# Altium schematic symbol library 74xx_IEEE.SchLib: 185 symbols
Pins are listed as number, name and electrical type; pins without a type are passive.

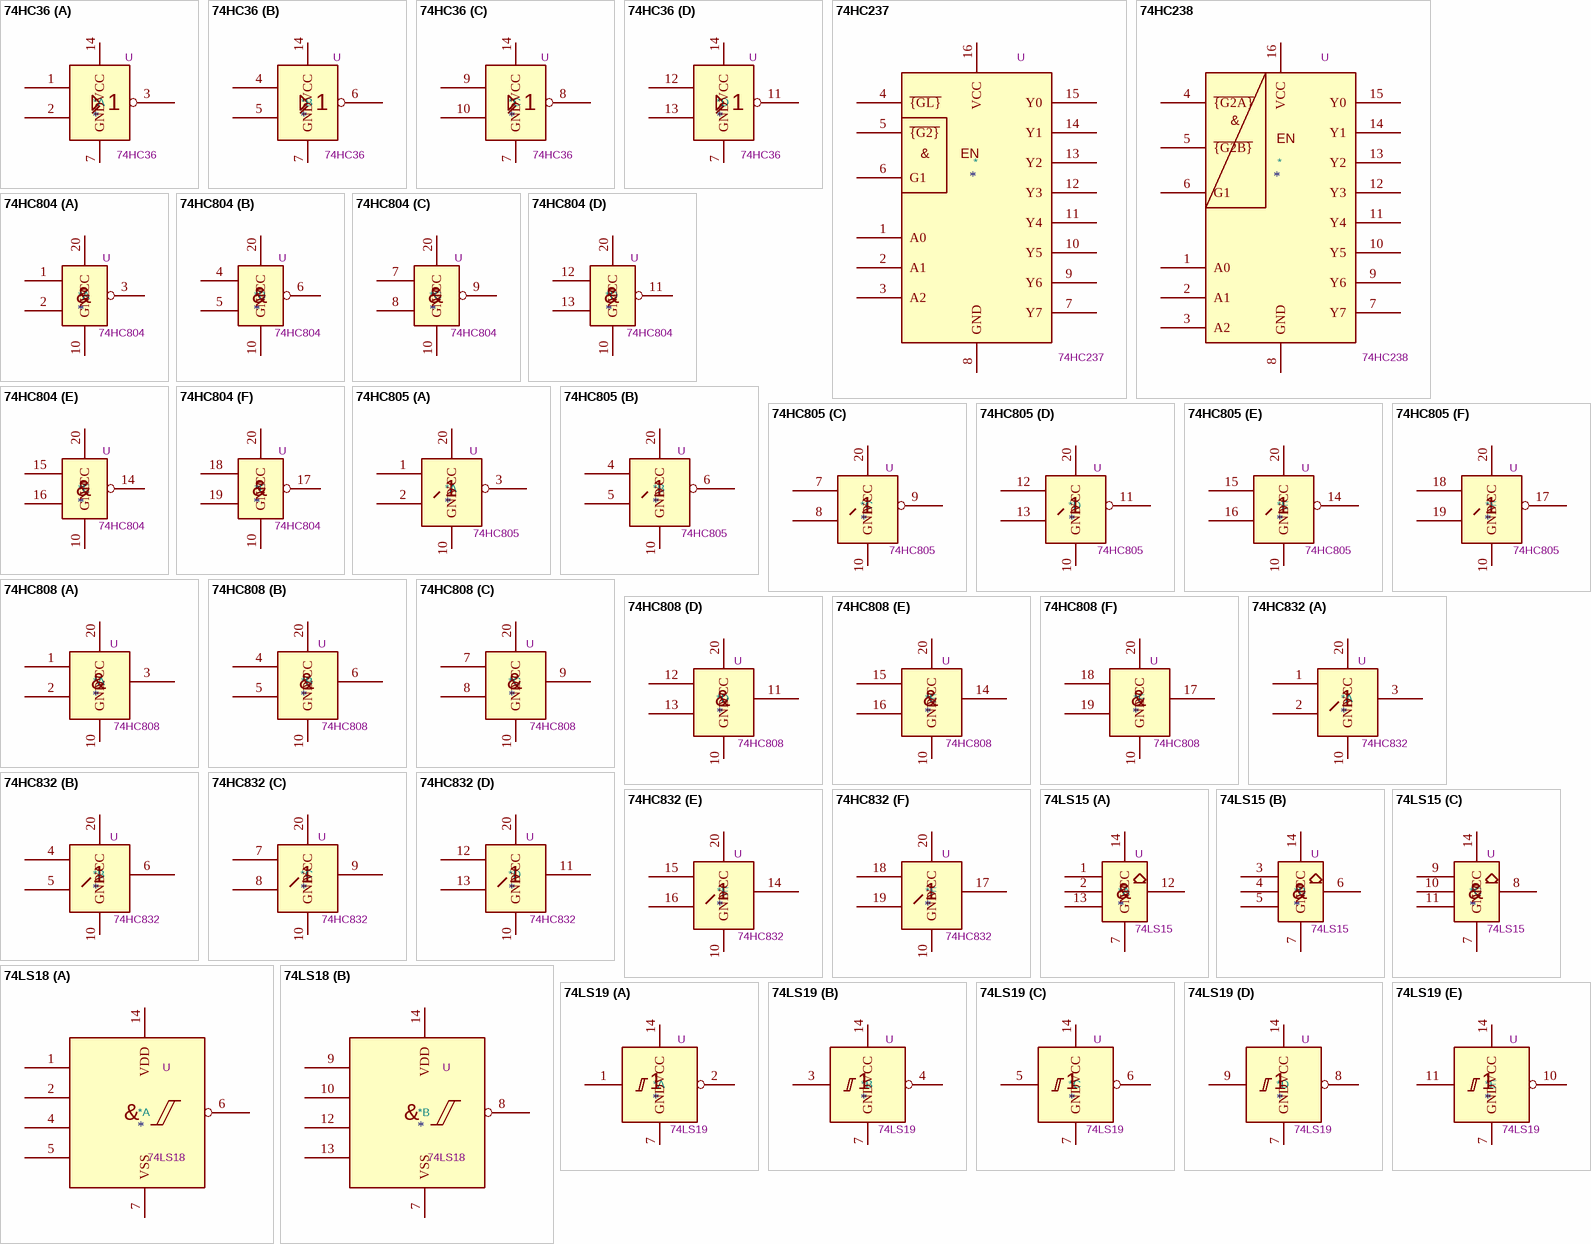
[diagram p0: symbols 74HC36 to 74LS19]

## 74HC36
designator *  value 74HC36  Reference: U
part A pins: 1, 2, 3, 7 GND, 14 VCC
part B pins: 4, 5, 6, 7 GND, 14 VCC
part C pins: 7 GND, 8, 9, 10, 14 VCC
part D pins: 7 GND, 11, 12, 13, 14 VCC

## 74HC237
designator *  value 74HC237  Reference: U
pins: 1 A0, 2 A1, 3 A2, 4 ~{{GL}}, 5 ~{{G2}}, 6 G1, 7 Y7, 8 GND, 9 Y6, 10 Y5, 11 Y4, 12 Y3, 13 Y2, 14 Y1, 15 Y0, 16 VCC
text: &; EN

## 74HC238
designator *  value 74HC238  Reference: U
pins: 1 A0, 2 A1, 3 A2, 4 ~{{G2A}}, 5 ~{{G2B}}, 6 G1, 7 Y7, 8 GND, 9 Y6, 10 Y5, 11 Y4, 12 Y3, 13 Y2, 14 Y1, 15 Y0, 16 VCC
text: &; EN

## 74HC804
designator *  value 74HC804  Reference: U
part A pins: 1, 2, 3, 10 GND, 20 VCC
part B pins: 4, 5, 6, 10 GND, 20 VCC
part C pins: 7, 8, 9, 10 GND, 20 VCC
part D pins: 10 GND, 11, 12, 13, 20 VCC
part E pins: 10 GND, 14, 15, 16, 20 VCC
part F pins: 10 GND, 17, 18, 19, 20 VCC
part A text: &
part B text: &
part C text: &
part D text: &
part E text: &
part F text: &

## 74HC805
designator *  value 74HC805  Reference: U
part A pins: 1, 2, 3, 10 GND, 20 VCC
part B pins: 4, 5, 6, 10 GND, 20 VCC
part C pins: 7, 8, 9, 10 GND, 20 VCC
part D pins: 10 GND, 11, 12, 13, 20 VCC
part E pins: 10 GND, 14, 15, 16, 20 VCC
part F pins: 10 GND, 17, 18, 19, 20 VCC

## 74HC808
designator *  value 74HC808  Reference: U
part A pins: 1, 2, 3, 10 GND, 20 VCC
part B pins: 4, 5, 6, 10 GND, 20 VCC
part C pins: 7, 8, 9, 10 GND, 20 VCC
part D pins: 10 GND, 11, 12, 13, 20 VCC
part E pins: 10 GND, 14, 15, 16, 20 VCC
part F pins: 10 GND, 17, 18, 19, 20 VCC
part A text: &
part B text: &
part C text: &
part D text: &
part E text: &
part F text: &

## 74HC832
designator *  value 74HC832  Reference: U
part A pins: 1, 2, 3, 10 GND, 20 VCC
part B pins: 4, 5, 6, 10 GND, 20 VCC
part C pins: 7, 8, 9, 10 GND, 20 VCC
part D pins: 10 GND, 11, 12, 13, 20 VCC
part E pins: 10 GND, 14, 15, 16, 20 VCC
part F pins: 10 GND, 17, 18, 19, 20 VCC

## 74LS15
designator *  value 74LS15  Reference: U
part A pins: 1, 2, 7 GND, 12, 13, 14 VCC
part B pins: 3, 4, 5, 6, 7 GND, 14 VCC
part C pins: 7 GND, 8, 9, 10, 11, 14 VCC
part A text: &
part B text: &
part C text: &

## 74LS18
designator *  value 74LS18  Reference: U
part A pins: 1, 2, 4, 5, 6, 7 VSS, 14 VDD
part B pins: 7 VSS, 8, 9, 10, 12, 13, 14 VDD
part A text: &
part B text: &

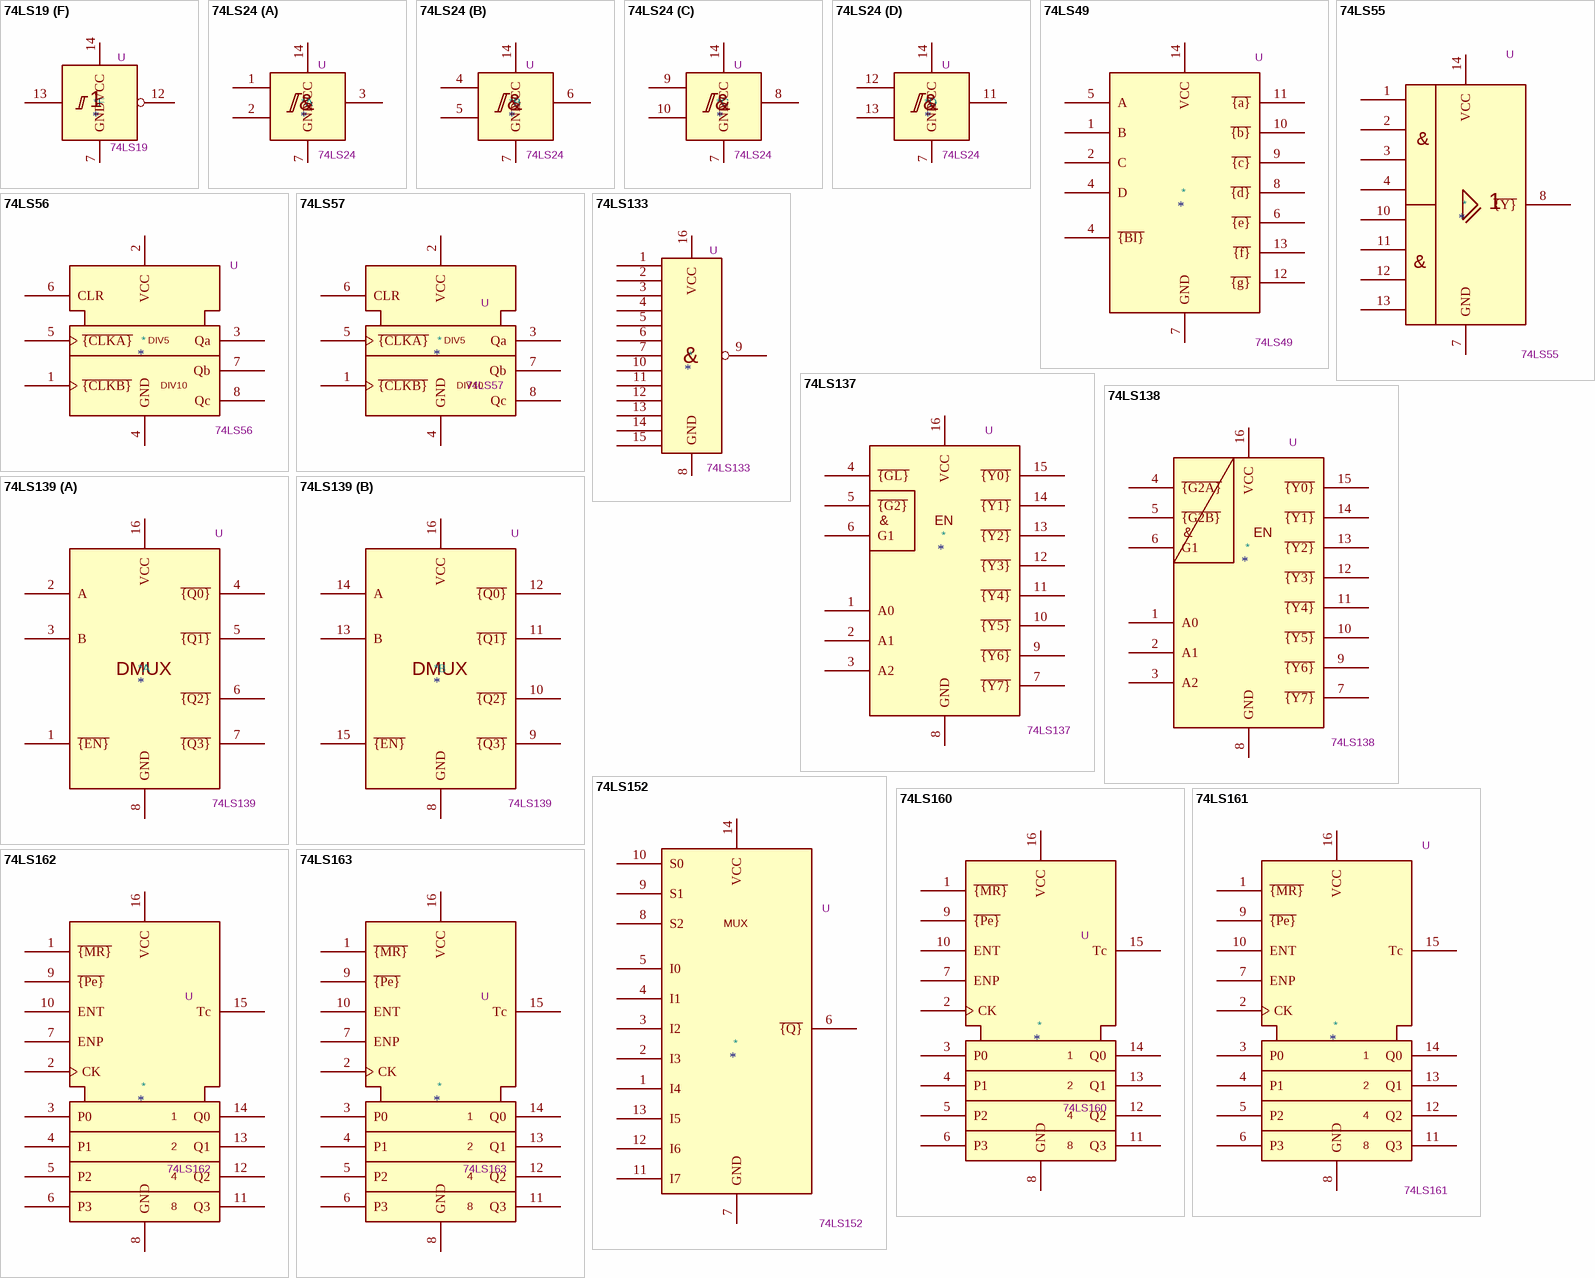
[diagram p1: symbols 74LS19 to 74LS163]

## 74LS19
designator *  value 74LS19  Reference: U
part A pins: 1, 2, 7 GND, 14 VCC
part B pins: 3, 4, 7 GND, 14 VCC
part C pins: 5, 6, 7 GND, 14 VCC
part D pins: 7 GND, 8, 9, 14 VCC
part E pins: 7 GND, 10, 11, 14 VCC
part F pins: 7 GND, 12, 13, 14 VCC

## 74LS24
designator *  value 74LS24  Reference: U
part A pins: 1, 2, 3, 7 GND, 14 VCC
part B pins: 4, 5, 6, 7 GND, 14 VCC
part C pins: 7 GND, 8, 9, 10, 14 VCC
part D pins: 7 GND, 11, 12, 13, 14 VCC
part A text: &
part B text: &
part C text: &
part D text: &

## 74LS49
designator *  value 74LS49  Reference: U
pins: 1 B, 2 C, 4 ~{{BI}}, 4 D, 5 A, 6 ~{{e}}, 7 GND, 8 ~{{d}}, 9 ~{{c}}, 10 ~{{b}}, 11 ~{{a}}, 12 ~{{g}}, 13 ~{{f}}, 14 VCC

## 74LS55
designator *  value 74LS55  Reference: U
pins: 1, 2, 3, 4, 7 GND, 8 ~{{Y}}, 10, 11, 12, 13, 14 VCC
text: &

## 74LS56
designator *  value 74LS56  Reference: U
pins: 1 ~{{CLKB}}, 2 VCC, 3 Qa, 4 GND, 5 ~{{CLKA}}, 6 CLR, 7 Qb, 8 Qc
text: DIV5; DIV10

## 74LS57
designator *  value 74LS57  Reference: U
pins: 1 ~{{CLKB}}, 2 VCC, 3 Qa, 4 GND, 5 ~{{CLKA}}, 6 CLR, 7 Qb, 8 Qc
text: DIV5; DIV10

## 74LS133
designator *  value 74LS133  Reference: U
pins: 1, 2, 3, 4, 5, 6, 7, 8 GND, 9, 10, 11, 12, 13, 14, 15, 16 VCC
text: &

## 74LS137
designator *  value 74LS137  Reference: U
pins: 1 A0, 2 A1, 3 A2, 4 ~{{GL}}, 5 ~{{G2}}, 6 G1, 7 ~{{Y7}}, 8 GND, 9 ~{{Y6}}, 10 ~{{Y5}}, 11 ~{{Y4}}, 12 ~{{Y3}}, 13 ~{{Y2}}, 14 ~{{Y1}}, 15 ~{{Y0}}, 16 VCC
text: &; EN

## 74LS138
designator *  value 74LS138  Reference: U
pins: 1 A0, 2 A1, 3 A2, 4 ~{{G2A}}, 5 ~{{G2B}}, 6 G1, 7 ~{{Y7}}, 8 GND, 9 ~{{Y6}}, 10 ~{{Y5}}, 11 ~{{Y4}}, 12 ~{{Y3}}, 13 ~{{Y2}}, 14 ~{{Y1}}, 15 ~{{Y0}}, 16 VCC
text: &; EN

## 74LS139
designator *  value 74LS139  Reference: U
ki_keywords: TTL DECOD4; ki_description: Dual Decoder 1 of 4, Active low outputs; Datasheet: http://www.ti.com/lit/ds/symlink/sn74ls139a.pdf
part A pins: 1 ~{{EN}}, 2 A, 3 B, 4 ~{{Q0}}, 5 ~{{Q1}}, 6 ~{{Q2}}, 7 ~{{Q3}}, 8 GND, 16 VCC
part B pins: 8 GND, 9 ~{{Q3}}, 10 ~{{Q2}}, 11 ~{{Q1}}, 12 ~{{Q0}}, 13 B, 14 A, 15 ~{{EN}}, 16 VCC
part A text: DMUX
part B text: DMUX

## 74LS152
designator *  value 74LS152  Reference: U
pins: 1 I4, 2 I3, 3 I2, 4 I1, 5 I0, 6 ~{{Q}}, 7 GND, 8 S2, 9 S1, 10 S0, 11 I7, 12 I6, 13 I5, 14 VCC
text: MUX

## 74LS160
designator *  value 74LS160  Reference: U
pins: 1 ~{{MR}}, 2 CK, 3 P0, 4 P1, 5 P2, 6 P3, 7 ENP, 8 GND, 9 ~{{Pe}}, 10 ENT, 11 Q3, 12 Q2, 13 Q1, 14 Q0, 15 Tc, 16 VCC

## 74LS161
designator *  value 74LS161  Reference: U
pins: 1 ~{{MR}}, 2 CK, 3 P0, 4 P1, 5 P2, 6 P3, 7 ENP, 8 GND, 9 ~{{Pe}}, 10 ENT, 11 Q3, 12 Q2, 13 Q1, 14 Q0, 15 Tc, 16 VCC

## 74LS162
designator *  value 74LS162  Reference: U
pins: 1 ~{{MR}}, 2 CK, 3 P0, 4 P1, 5 P2, 6 P3, 7 ENP, 8 GND, 9 ~{{Pe}}, 10 ENT, 11 Q3, 12 Q2, 13 Q1, 14 Q0, 15 Tc, 16 VCC

## 74LS163
designator *  value 74LS163  Reference: U
pins: 1 ~{{MR}}, 2 CK, 3 P0, 4 P1, 5 P2, 6 P3, 7 ENP, 8 GND, 9 ~{{Pe}}, 10 ENT, 11 Q3, 12 Q2, 13 Q1, 14 Q0, 15 Tc, 16 VCC

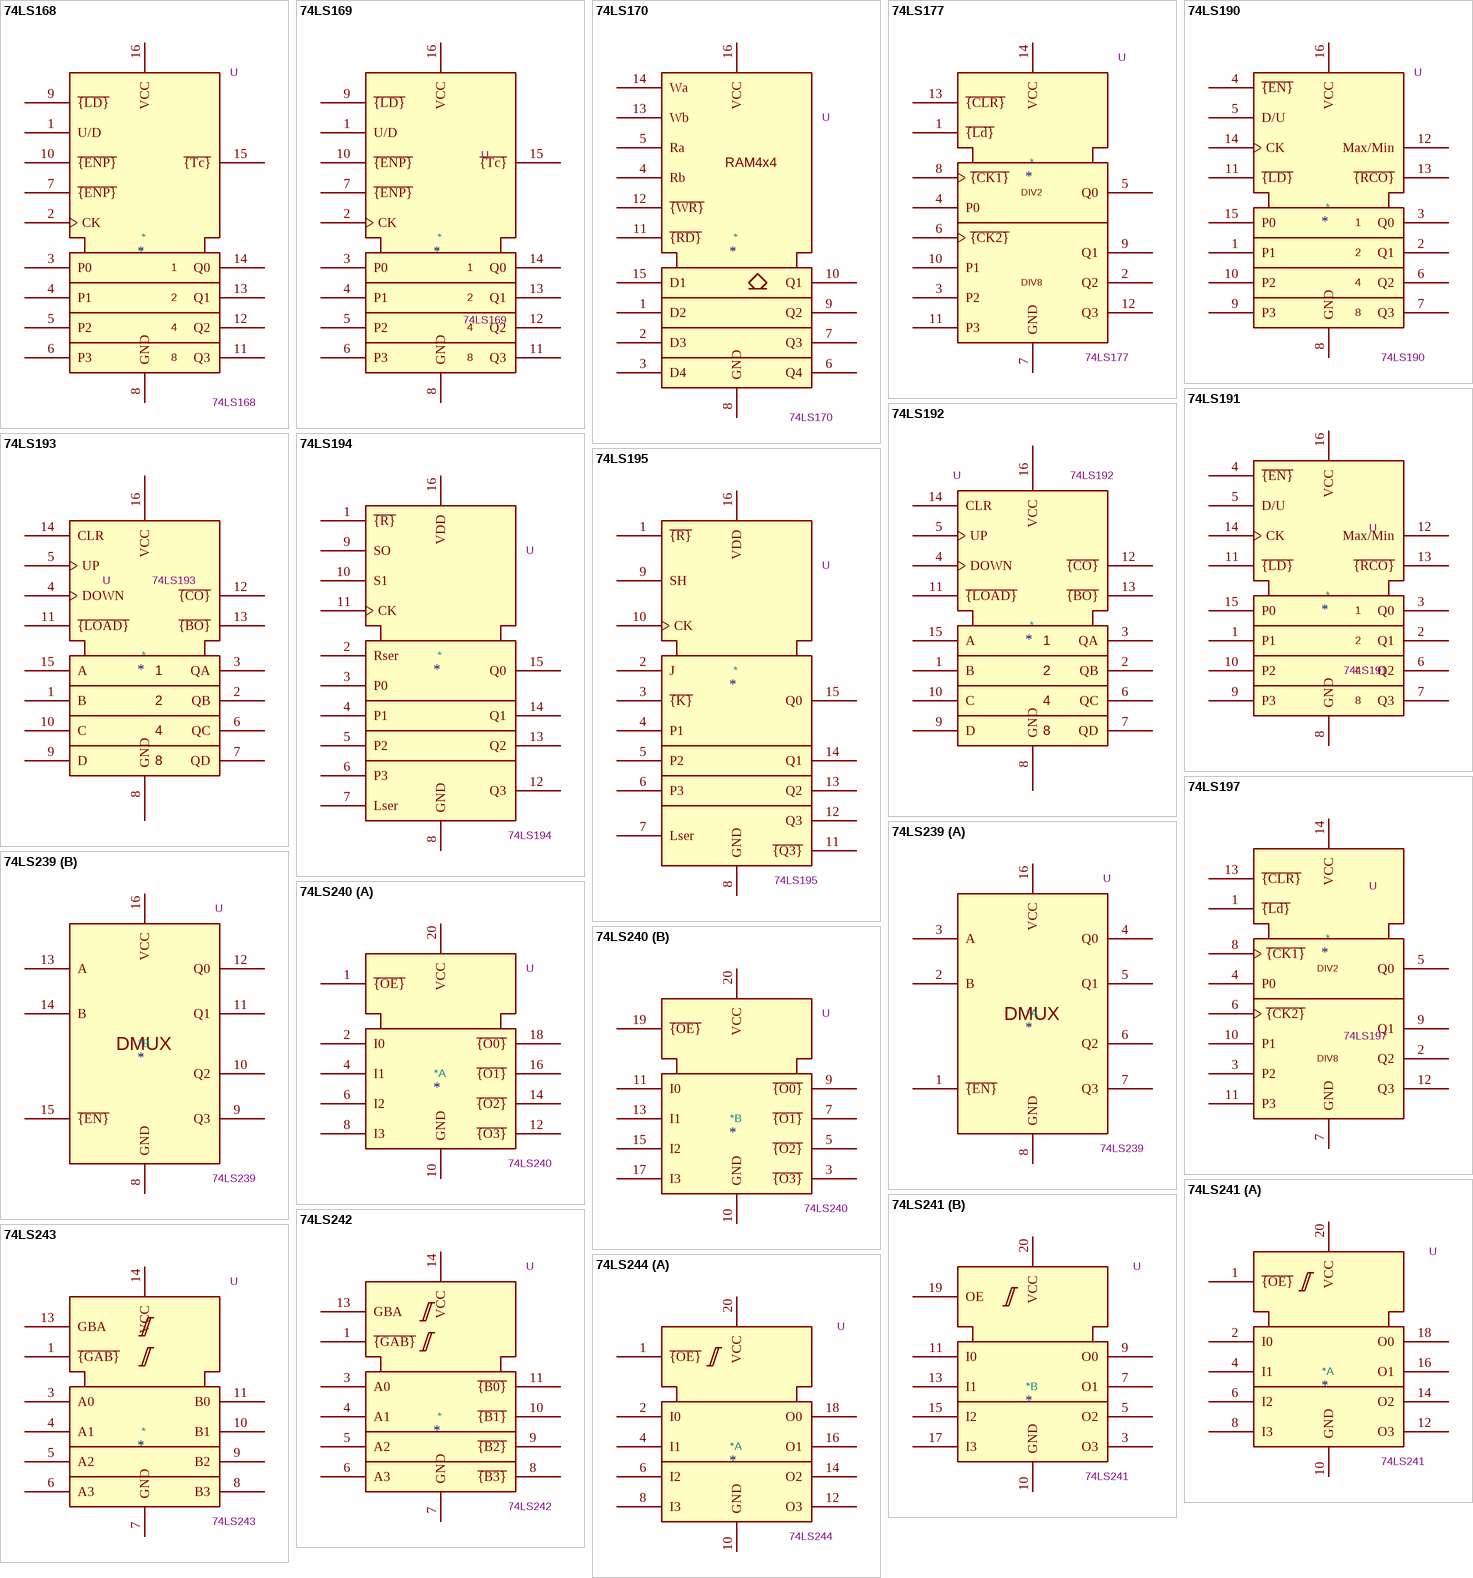
[diagram p2: symbols 74LS168 to 74LS244]

## 74LS168
designator *  value 74LS168  Reference: U
pins: 1 U/D, 2 CK, 3 P0, 4 P1, 5 P2, 6 P3, 7 ~{{ENP}}, 8 GND, 9 ~{{LD}}, 10 ~{{ENP}}, 11 Q3, 12 Q2, 13 Q1, 14 Q0, 15 ~{{Tc}}, 16 VCC

## 74LS169
designator *  value 74LS169  Reference: U
pins: 1 U/D, 2 CK, 3 P0, 4 P1, 5 P2, 6 P3, 7 ~{{ENP}}, 8 GND, 9 ~{{LD}}, 10 ~{{ENP}}, 11 Q3, 12 Q2, 13 Q1, 14 Q0, 15 ~{{Tc}}, 16 VCC

## 74LS170
designator *  value 74LS170  Reference: U
pins: 1 D2, 2 D3, 3 D4, 4 Rb, 5 Ra, 6 Q4, 7 Q3, 8 GND, 9 Q2, 10 Q1, 11 ~{{RD}}, 12 ~{{WR}}, 13 Wb, 14 Wa, 15 D1, 16 VCC
text: RAM4x4

## 74LS177
designator *  value 74LS177  Reference: U
pins: 1 ~{{Ld}}, 2 Q2, 3 P2, 4 P0, 5 Q0, 6 ~{{CK2}}, 7 GND, 8 ~{{CK1}}, 9 Q1, 10 P1, 11 P3, 12 Q3, 13 ~{{CLR}}, 14 VCC
text: DIV2; DIV8

## 74LS190
designator *  value 74LS190  Reference: U
pins: 1 P1, 2 Q1, 3 Q0, 4 ~{{EN}}, 5 D/U, 6 Q2, 7 Q3, 8 GND, 9 P3, 10 P2, 11 ~{{LD}}, 12 Max/Min, 13 ~{{RCO}}, 14 CK, 15 P0, 16 VCC

## 74LS191
designator *  value 74LS191  Reference: U
pins: 1 P1, 2 Q1, 3 Q0, 4 ~{{EN}}, 5 D/U, 6 Q2, 7 Q3, 8 GND, 9 P3, 10 P2, 11 ~{{LD}}, 12 Max/Min, 13 ~{{RCO}}, 14 CK, 15 P0, 16 VCC

## 74LS192
designator *  value 74LS192  Reference: U
ki_keywords: TTL CNT CNT4; ki_description: Synchronous 4-bit Up/Down (2 clk) counter; ki_fp_filters: SOIC*3.9x9.9mm*P1.27mm* DIP*W7.62mm*; Datasheet: http://www.ti.com/lit/ds/symlink/sn74ls193.pdf
pins: 1 B, 2 QB, 3 QA, 4 DOWN, 5 UP, 6 QC, 7 QD, 8 GND, 9 D, 10 C, 11 ~{{LOAD}}, 12 ~{{CO}}, 13 ~{{BO}}, 14 CLR, 15 A, 16 VCC

## 74LS193
designator *  value 74LS193  Reference: U
ki_keywords: TTL CNT CNT4; ki_description: Synchronous 4-bit Up/Down (2 clk) counter; ki_fp_filters: SOIC*3.9x9.9mm*P1.27mm* DIP*W7.62mm*; Datasheet: http://www.ti.com/lit/ds/symlink/sn74ls193.pdf
pins: 1 B, 2 QB, 3 QA, 4 DOWN, 5 UP, 6 QC, 7 QD, 8 GND, 9 D, 10 C, 11 ~{{LOAD}}, 12 ~{{CO}}, 13 ~{{BO}}, 14 CLR, 15 A, 16 VCC

## 74LS194
designator *  value 74LS194  Reference: U
pins: 1 ~{{R}}, 2 Rser, 3 P0, 4 P1, 5 P2, 6 P3, 7 Lser, 8 GND, 9 SO, 10 S1, 11 CK, 12 Q3, 13 Q2, 14 Q1, 15 Q0, 16 VDD

## 74LS195
designator *  value 74LS195  Reference: U
pins: 1 ~{{R}}, 2 J, 3 ~{{K}}, 4 P1, 5 P2, 6 P3, 7 Lser, 8 GND, 9 SH, 10 CK, 11 ~{{Q3}}, 12 Q3, 13 Q2, 14 Q1, 15 Q0, 16 VDD

## 74LS197
designator *  value 74LS197  Reference: U
pins: 1 ~{{Ld}}, 2 Q2, 3 P2, 4 P0, 5 Q0, 6 ~{{CK2}}, 7 GND, 8 ~{{CK1}}, 9 Q1, 10 P1, 11 P3, 12 Q3, 13 ~{{CLR}}, 14 VCC
text: DIV2; DIV8

## 74LS239
designator *  value 74LS239  Reference: U
part A pins: 1 ~{{EN}}, 2 B, 3 A, 4 Q0, 5 Q1, 6 Q2, 7 Q3, 8 GND, 16 VCC
part B pins: 8 GND, 9 Q3, 10 Q2, 11 Q1, 12 Q0, 13 A, 14 B, 15 ~{{EN}}, 16 VCC
part A text: DMUX
part B text: DMUX

## 74LS240
designator *  value 74LS240  Reference: U
ki_keywords: 7400 logic ttl low power schottky; ki_description: Octal Buffer and Line Driver With 3-State Output, active-low enables, inverting outputs; Datasheet: http://www.ti.com/lit/ds/symlink/sn74ls240.pdf
part A pins: 1 ~{{OE}}, 2 I0, 4 I1, 6 I2, 8 I3, 10 GND, 12 ~{{O3}}, 14 ~{{O2}}, 16 ~{{O1}}, 18 ~{{O0}}, 20 VCC
part B pins: 3 ~{{O3}}, 5 ~{{O2}}, 7 ~{{O1}}, 9 ~{{O0}}, 10 GND, 11 I0, 13 I1, 15 I2, 17 I3, 19 ~{{OE}}, 20 VCC

## 74LS241
designator *  value 74LS241  Reference: U
ki_keywords: 7400 logic ttl low power schottky; ki_description: Octal Buffer and Line Driver With 3-State Output, complementary enables, non-inverting outputs; Datasheet: http://www.ti.com/lit/ds/symlink/sn74ls241.pdf
part A pins: 1 ~{{OE}}, 2 I0, 4 I1, 6 I2, 8 I3, 10 GND, 12 O3, 14 O2, 16 O1, 18 O0, 20 VCC
part B pins: 3 O3, 5 O2, 7 O1, 9 O0, 10 GND, 11 I0, 13 I1, 15 I2, 17 I3, 19 OE, 20 VCC

## 74LS242
designator *  value 74LS242  Reference: U
pins: 1 ~{{GAB}}, 3 A0, 4 A1, 5 A2, 6 A3, 7 GND, 8 ~{{B3}}, 9 ~{{B2}}, 10 ~{{B1}}, 11 ~{{B0}}, 13 GBA, 14 VCC

## 74LS243
designator *  value 74LS243  Reference: U
pins: 1 ~{{GAB}}, 3 A0, 4 A1, 5 A2, 6 A3, 7 GND, 8 B3, 9 B2, 10 B1, 11 B0, 13 GBA, 14 VCC

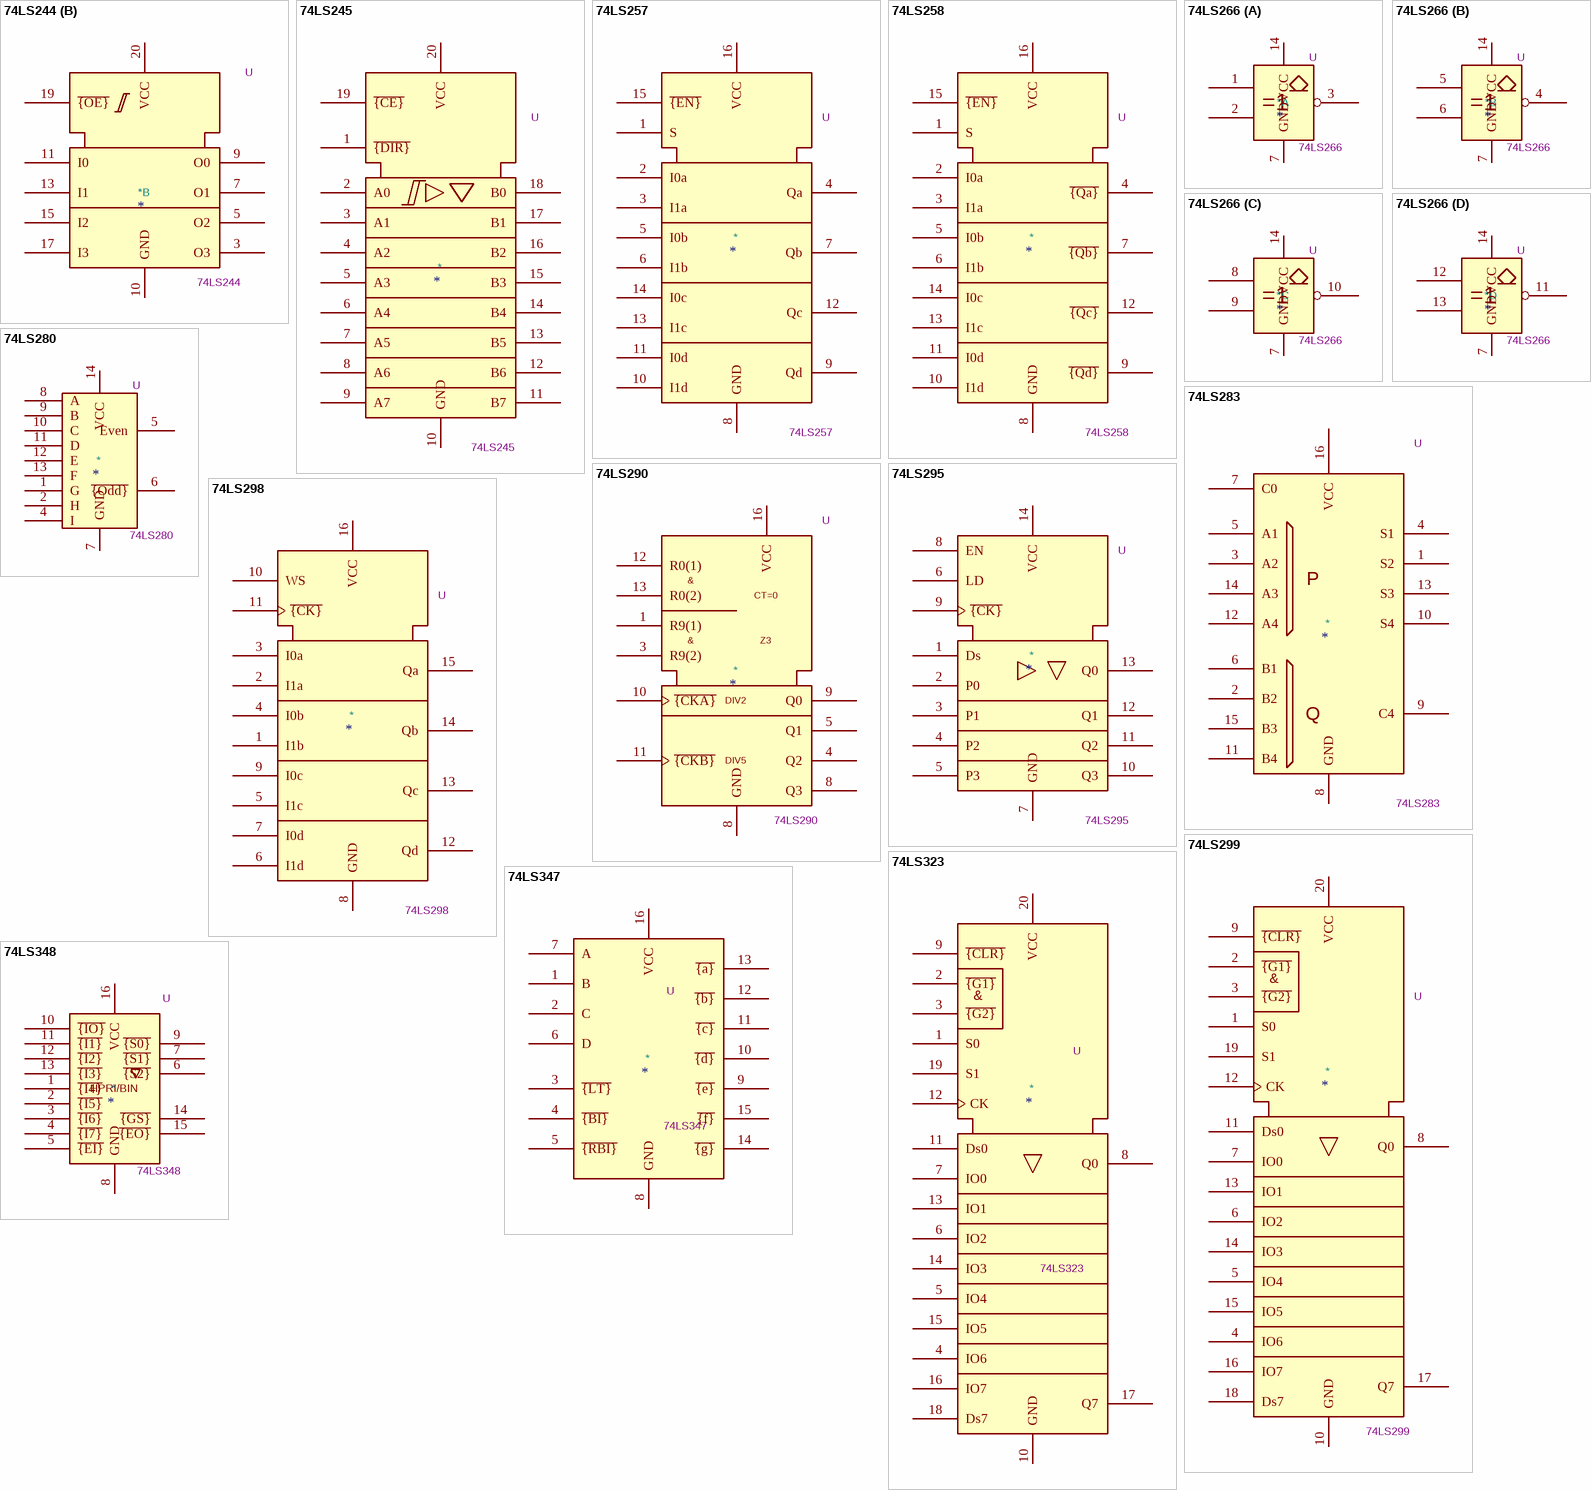
[diagram p3: symbols 74LS244 to 74LS348]

## 74LS244
designator *  value 74LS244  Reference: U
ki_keywords: 7400 logic ttl low power schottky; ki_description: Octal Buffer and Line Driver With 3-State Output, active-low enables, non-inverting outputs; Datasheet: http://www.ti.com/lit/ds/symlink/sn74ls244.pdf
part A pins: 1 ~{{OE}}, 2 I0, 4 I1, 6 I2, 8 I3, 10 GND, 12 O3, 14 O2, 16 O1, 18 O0, 20 VCC
part B pins: 3 O3, 5 O2, 7 O1, 9 O0, 10 GND, 11 I0, 13 I1, 15 I2, 17 I3, 19 ~{{OE}}, 20 VCC

## 74LS245
designator *  value 74LS245  Reference: U
pins: 1 ~{{DIR}}, 2 A0, 3 A1, 4 A2, 5 A3, 6 A4, 7 A5, 8 A6, 9 A7, 10 GND, 11 B7, 12 B6, 13 B5, 14 B4, 15 B3, 16 B2, 17 B1, 18 B0, 19 ~{{CE}}, 20 VCC

## 74LS257
designator *  value 74LS257  Reference: U
pins: 1 S, 2 I0a, 3 I1a, 4 Qa, 5 I0b, 6 I1b, 7 Qb, 8 GND, 9 Qd, 10 I1d, 11 I0d, 12 Qc, 13 I1c, 14 I0c, 15 ~{{EN}}, 16 VCC

## 74LS258
designator *  value 74LS258  Reference: U
pins: 1 S, 2 I0a, 3 I1a, 4 ~{{Qa}}, 5 I0b, 6 I1b, 7 ~{{Qb}}, 8 GND, 9 ~{{Qd}}, 10 I1d, 11 I0d, 12 ~{{Qc}}, 13 I1c, 14 I0c, 15 ~{{EN}}, 16 VCC

## 74LS266
designator *  value 74LS266  Reference: U
part A pins: 1, 2, 3, 7 GND, 14 VCC
part B pins: 4, 5, 6, 7 GND, 14 VCC
part C pins: 7 GND, 8, 9, 10, 14 VCC
part D pins: 7 GND, 11, 12, 13, 14 VCC

## 74LS280
designator *  value 74LS280  Reference: U
pins: 1 G, 2 H, 4 I, 5 Even, 6 ~{{Odd}}, 7 GND, 8 A, 9 B, 10 C, 11 D, 12 E, 13 F, 14 VCC

## 74LS283
designator *  value 74LS283  Reference: U
pins: 1 S2, 2 B2, 3 A2, 4 S1, 5 A1, 6 B1, 7 C0, 8 GND, 9 C4, 10 S4, 11 B4, 12 A4, 13 S3, 14 A3, 15 B3, 16 VCC
text: P; Q

## 74LS290
designator *  value 74LS290  Reference: U
pins: 1 R9(1), 3 R9(2), 4 Q2, 5 Q1, 8 Q3, 8 GND, 9 Q0, 10 ~{{CKA}}, 11 ~{{CKB}}, 12 R0(1), 13 R0(2), 16 VCC
text: &; CT=0; Z3; DIV2; DIV5

## 74LS295
designator *  value 74LS295  Reference: U
pins: 1 Ds, 2 P0, 3 P1, 4 P2, 5 P3, 6 LD, 7 GND, 8 EN, 9 ~{{CK}}, 10 Q3, 11 Q2, 12 Q1, 13 Q0, 14 VCC

## 74LS298
designator *  value 74LS298  Reference: U
pins: 1 I1b, 2 I1a, 3 I0a, 4 I0b, 5 I1c, 6 I1d, 7 I0d, 8 GND, 9 I0c, 10 WS, 11 ~{{CK}}, 12 Qd, 13 Qc, 14 Qb, 15 Qa, 16 VCC

## 74LS299
designator *  value 74LS299  Reference: U
pins: 1 S0, 2 ~{{G1}}, 3 ~{{G2}}, 4 IO6, 5 IO4, 6 IO2, 7 IO0, 8 Q0, 9 ~{{CLR}}, 10 GND, 11 Ds0, 12 CK, 13 IO1, 14 IO3, 15 IO5, 16 IO7, 17 Q7, 18 Ds7, 19 S1, 20 VCC
text: &

## 74LS323
designator *  value 74LS323  Reference: U
pins: 1 S0, 2 ~{{G1}}, 3 ~{{G2}}, 4 IO6, 5 IO4, 6 IO2, 7 IO0, 8 Q0, 9 ~{{CLR}}, 10 GND, 11 Ds0, 12 CK, 13 IO1, 14 IO3, 15 IO5, 16 IO7, 17 Q7, 18 Ds7, 19 S1, 20 VCC
text: &

## 74LS347
designator *  value 74LS347  Reference: U
pins: 1 B, 2 C, 3 ~{{LT}}, 4 ~{{BI}}, 5 ~{{RBI}}, 6 D, 7 A, 8 GND, 9 ~{{e}}, 10 ~{{d}}, 11 ~{{c}}, 12 ~{{b}}, 13 ~{{a}}, 14 ~{{g}}, 15 ~{{f}}, 16 VCC

## 74LS348
designator *  value 74LS348  Reference: U
pins: 1 ~{{I4}}, 2 ~{{I5}}, 3 ~{{I6}}, 4 ~{{I7}}, 5 ~{{EI}}, 6 ~{{S2}}, 7 ~{{S1}}, 8 GND, 9 ~{{S0}}, 10 ~{{IO}}, 11 ~{{I1}}, 12 ~{{I2}}, 13 ~{{I3}}, 14 ~{{GS}}, 15 ~{{EO}}, 16 VCC
text: HPRI/BIN

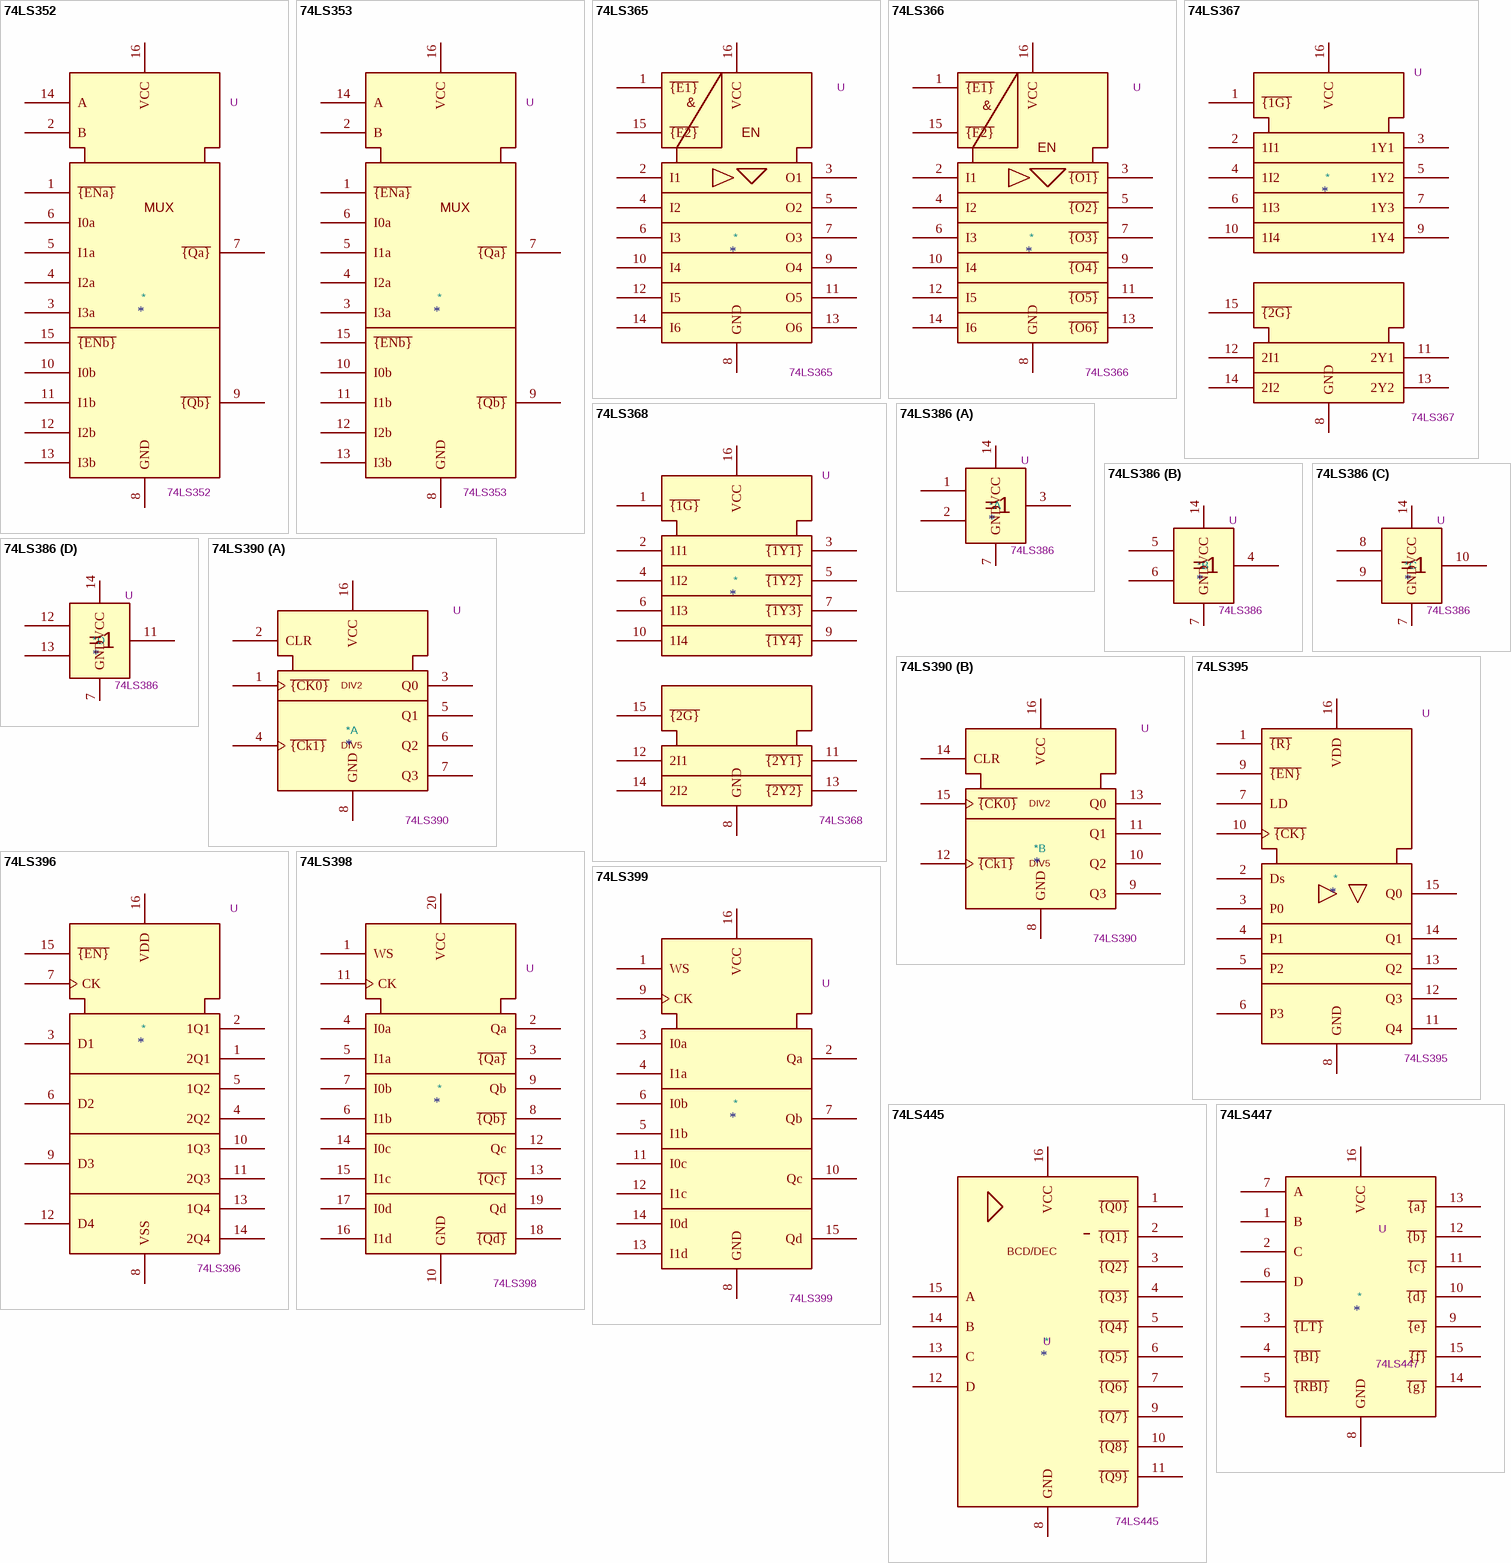
[diagram p4: symbols 74LS352 to 74LS447]

## 74LS352
designator *  value 74LS352  Reference: U
pins: 1 ~{{ENa}}, 2 B, 3 I3a, 4 I2a, 5 I1a, 6 I0a, 7 ~{{Qa}}, 8 GND, 9 ~{{Qb}}, 10 I0b, 11 I1b, 12 I2b, 13 I3b, 14 A, 15 ~{{ENb}}, 16 VCC
text: MUX

## 74LS353
designator *  value 74LS353  Reference: U
pins: 1 ~{{ENa}}, 2 B, 3 I3a, 4 I2a, 5 I1a, 6 I0a, 7 ~{{Qa}}, 8 GND, 9 ~{{Qb}}, 10 I0b, 11 I1b, 12 I2b, 13 I3b, 14 A, 15 ~{{ENb}}, 16 VCC
text: MUX

## 74LS365
designator *  value 74LS365  Reference: U
pins: 1 ~{{E1}}, 2 I1, 3 O1, 4 I2, 5 O2, 6 I3, 7 O3, 8 GND, 9 O4, 10 I4, 11 O5, 12 I5, 13 O6, 14 I6, 15 ~{{E2}}, 16 VCC
text: &; EN

## 74LS366
designator *  value 74LS366  Reference: U
pins: 1 ~{{E1}}, 2 I1, 3 ~{{O1}}, 4 I2, 5 ~{{O2}}, 6 I3, 7 ~{{O3}}, 8 GND, 9 ~{{O4}}, 10 I4, 11 ~{{O5}}, 12 I5, 13 ~{{O6}}, 14 I6, 15 ~{{E2}}, 16 VCC
text: &; EN

## 74LS367
designator *  value 74LS367  Reference: U
pins: 1 ~{{1G}}, 2 1I1, 3 1Y1, 4 1I2, 5 1Y2, 6 1I3, 7 1Y3, 8 GND, 9 1Y4, 10 1I4, 11 2Y1, 12 2I1, 13 2Y2, 14 2I2, 15 ~{{2G}}, 16 VCC

## 74LS368
designator *  value 74LS368  Reference: U
pins: 1 ~{{1G}}, 2 1I1, 3 ~{{1Y1}}, 4 1I2, 5 ~{{1Y2}}, 6 1I3, 7 ~{{1Y3}}, 8 GND, 9 ~{{1Y4}}, 10 1I4, 11 ~{{2Y1}}, 12 2I1, 13 ~{{2Y2}}, 14 2I2, 15 ~{{2G}}, 16 VCC

## 74LS386
designator *  value 74LS386  Reference: U
part A pins: 1, 2, 3, 7 GND, 14 VCC
part B pins: 4, 5, 6, 7 GND, 14 VCC
part C pins: 7 GND, 8, 9, 10, 14 VCC
part D pins: 7 GND, 11, 12, 13, 14 VCC

## 74LS390
designator *  value 74LS390  Reference: U
part A pins: 1 ~{{CK0}}, 2 CLR, 3 Q0, 4 ~{{Ck1}}, 5 Q1, 6 Q2, 7 Q3, 8 GND, 16 VCC
part B pins: 8 GND, 9 Q3, 10 Q2, 11 Q1, 12 ~{{Ck1}}, 13 Q0, 14 CLR, 15 ~{{CK0}}, 16 VCC
part A text: DIV2; DIV5
part B text: DIV2; DIV5

## 74LS395
designator *  value 74LS395  Reference: U
pins: 1 ~{{R}}, 2 Ds, 3 P0, 4 P1, 5 P2, 6 P3, 7 LD, 8 GND, 9 ~{{EN}}, 10 ~{{CK}}, 11 Q4, 12 Q3, 13 Q2, 14 Q1, 15 Q0, 16 VDD

## 74LS396
designator *  value 74LS396  Reference: U
pins: 1 2Q1, 2 1Q1, 3 D1, 4 2Q2, 5 1Q2, 6 D2, 7 CK, 8 VSS, 9 D3, 10 1Q3, 11 2Q3, 12 D4, 13 1Q4, 14 2Q4, 15 ~{{EN}}, 16 VDD

## 74LS398
designator *  value 74LS398  Reference: U
pins: 1 WS, 2 Qa, 3 ~{{Qa}}, 4 I0a, 5 I1a, 6 I1b, 7 I0b, 8 ~{{Qb}}, 9 Qb, 10 GND, 11 CK, 12 Qc, 13 ~{{Qc}}, 14 I0c, 15 I1c, 16 I1d, 17 I0d, 18 ~{{Qd}}, 19 Qd, 20 VCC

## 74LS399
designator *  value 74LS399  Reference: U
pins: 1 WS, 2 Qa, 3 I0a, 4 I1a, 5 I1b, 6 I0b, 7 Qb, 8 GND, 9 CK, 10 Qc, 11 I0c, 12 I1c, 13 I1d, 14 I0d, 15 Qd, 16 VCC

## 74LS445
designator *  value 74LS445  Reference: U
pins: 1 ~{{Q0}}, 2 ~{{Q1}}, 3 ~{{Q2}}, 4 ~{{Q3}}, 5 ~{{Q4}}, 6 ~{{Q5}}, 7 ~{{Q6}}, 8 GND, 9 ~{{Q7}}, 10 ~{{Q8}}, 11 ~{{Q9}}, 12 D, 13 C, 14 B, 15 A, 16 VCC
text: BCD/DEC

## 74LS447
designator *  value 74LS447  Reference: U
pins: 1 B, 2 C, 3 ~{{LT}}, 4 ~{{BI}}, 5 ~{{RBI}}, 6 D, 7 A, 8 GND, 9 ~{{e}}, 10 ~{{d}}, 11 ~{{c}}, 12 ~{{b}}, 13 ~{{a}}, 14 ~{{g}}, 15 ~{{f}}, 16 VCC

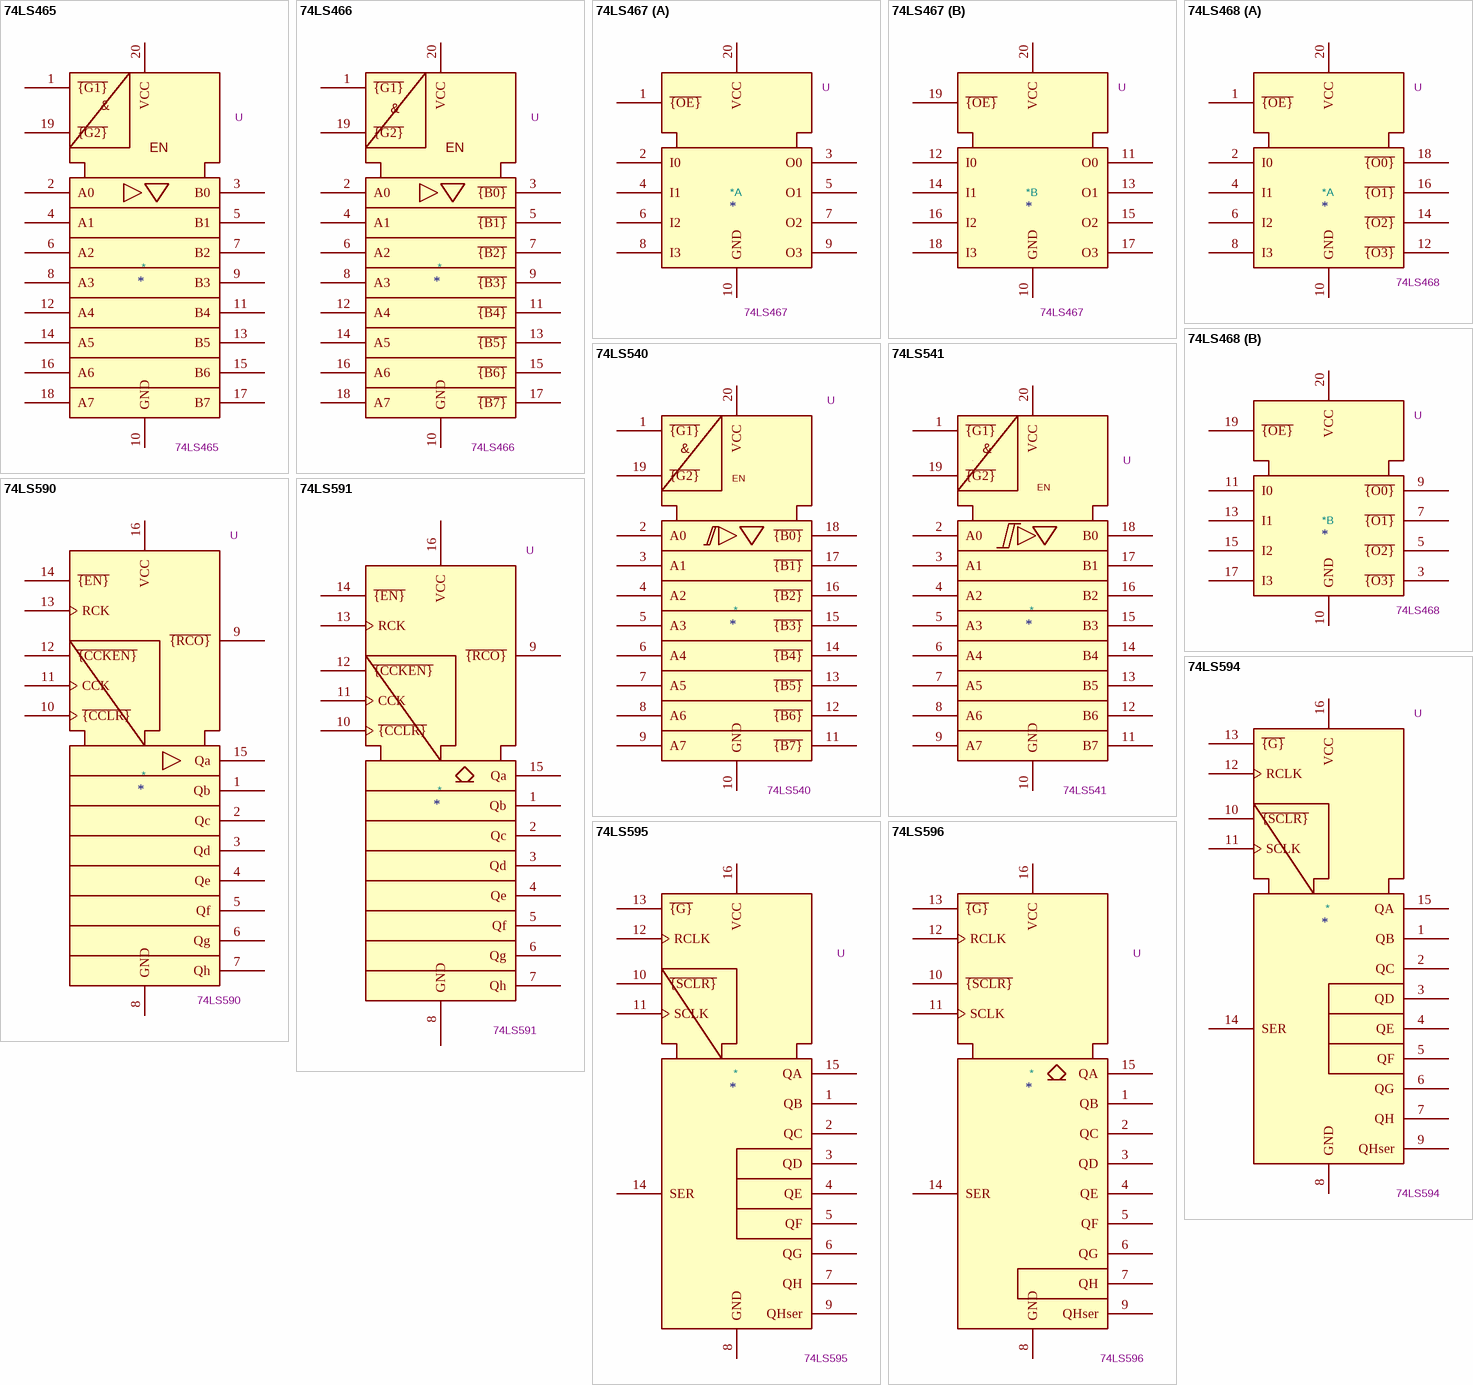
[diagram p5: symbols 74LS465 to 74LS596]

## 74LS465
designator *  value 74LS465  Reference: U
pins: 1 ~{{G1}}, 2 A0, 3 B0, 4 A1, 5 B1, 6 A2, 7 B2, 8 A3, 9 B3, 10 GND, 11 B4, 12 A4, 13 B5, 14 A5, 15 B6, 16 A6, 17 B7, 18 A7, 19 ~{{G2}}, 20 VCC
text: &; EN

## 74LS466
designator *  value 74LS466  Reference: U
pins: 1 ~{{G1}}, 2 A0, 3 ~{{B0}}, 4 A1, 5 ~{{B1}}, 6 A2, 7 ~{{B2}}, 8 A3, 9 ~{{B3}}, 10 GND, 11 ~{{B4}}, 12 A4, 13 ~{{B5}}, 14 A5, 15 ~{{B6}}, 16 A6, 17 ~{{B7}}, 18 A7, 19 ~{{G2}}, 20 VCC
text: &; EN

## 74LS467
designator *  value 74LS467  Reference: U
part A pins: 1 ~{{OE}}, 2 I0, 3 O0, 4 I1, 5 O1, 6 I2, 7 O2, 8 I3, 9 O3, 10 GND, 20 VCC
part B pins: 10 GND, 11 O0, 12 I0, 13 O1, 14 I1, 15 O2, 16 I2, 17 O3, 18 I3, 19 ~{{OE}}, 20 VCC

## 74LS468
designator *  value 74LS468  Reference: U
part A pins: 1 ~{{OE}}, 2 I0, 4 I1, 6 I2, 8 I3, 10 GND, 12 ~{{O3}}, 14 ~{{O2}}, 16 ~{{O1}}, 18 ~{{O0}}, 20 VCC
part B pins: 3 ~{{O3}}, 5 ~{{O2}}, 7 ~{{O1}}, 9 ~{{O0}}, 10 GND, 11 I0, 13 I1, 15 I2, 17 I3, 19 ~{{OE}}, 20 VCC

## 74LS540
designator *  value 74LS540  Reference: U
pins: 1 ~{{G1}}, 2 A0, 3 A1, 4 A2, 5 A3, 6 A4, 7 A5, 8 A6, 9 A7, 10 GND, 11 ~{{B7}}, 12 ~{{B6}}, 13 ~{{B5}}, 14 ~{{B4}}, 15 ~{{B3}}, 16 ~{{B2}}, 17 ~{{B1}}, 18 ~{{B0}}, 19 ~{{G2}}, 20 VCC
text: &; EN

## 74LS541
designator *  value 74LS541  Reference: U
pins: 1 ~{{G1}}, 2 A0, 3 A1, 4 A2, 5 A3, 6 A4, 7 A5, 8 A6, 9 A7, 10 GND, 11 B7, 12 B6, 13 B5, 14 B4, 15 B3, 16 B2, 17 B1, 18 B0, 19 ~{{G2}}, 20 VCC
text: &; EN

## 74LS590
designator *  value 74LS590  Reference: U
pins: 1 Qb, 2 Qc, 3 Qd, 4 Qe, 5 Qf, 6 Qg, 7 Qh, 8 GND, 9 ~{{RCO}}, 10 ~{{CCLR}}, 11 CCK, 12 ~{{CCKEN}}, 13 RCK, 14 ~{{EN}}, 15 Qa, 16 VCC

## 74LS591
designator *  value 74LS591  Reference: U
pins: 1 Qb, 2 Qc, 3 Qd, 4 Qe, 5 Qf, 6 Qg, 7 Qh, 8 GND, 9 ~{{RCO}}, 10 ~{{CCLR}}, 11 CCK, 12 ~{{CCKEN}}, 13 RCK, 14 ~{{EN}}, 15 Qa, 16 VCC

## 74LS594
designator *  value 74LS594  Reference: U
pins: 1 QB, 2 QC, 3 QD, 4 QE, 5 QF, 6 QG, 7 QH, 8 GND, 9 QHser, 10 ~{{SCLR}}, 11 SCLK, 12 RCLK, 13 ~{{G}}, 14 SER, 15 QA, 16 VCC

## 74LS595
designator *  value 74LS595  Reference: U
pins: 1 QB, 2 QC, 3 QD, 4 QE, 5 QF, 6 QG, 7 QH, 8 GND, 9 QHser, 10 ~{{SCLR}}, 11 SCLK, 12 RCLK, 13 ~{{G}}, 14 SER, 15 QA, 16 VCC

## 74LS596
designator *  value 74LS596  Reference: U
pins: 1 QB, 2 QC, 3 QD, 4 QE, 5 QF, 6 QG, 7 QH, 8 GND, 9 QHser, 10 ~{{SCLR}}, 11 SCLK, 12 RCLK, 13 ~{{G}}, 14 SER, 15 QA, 16 VCC

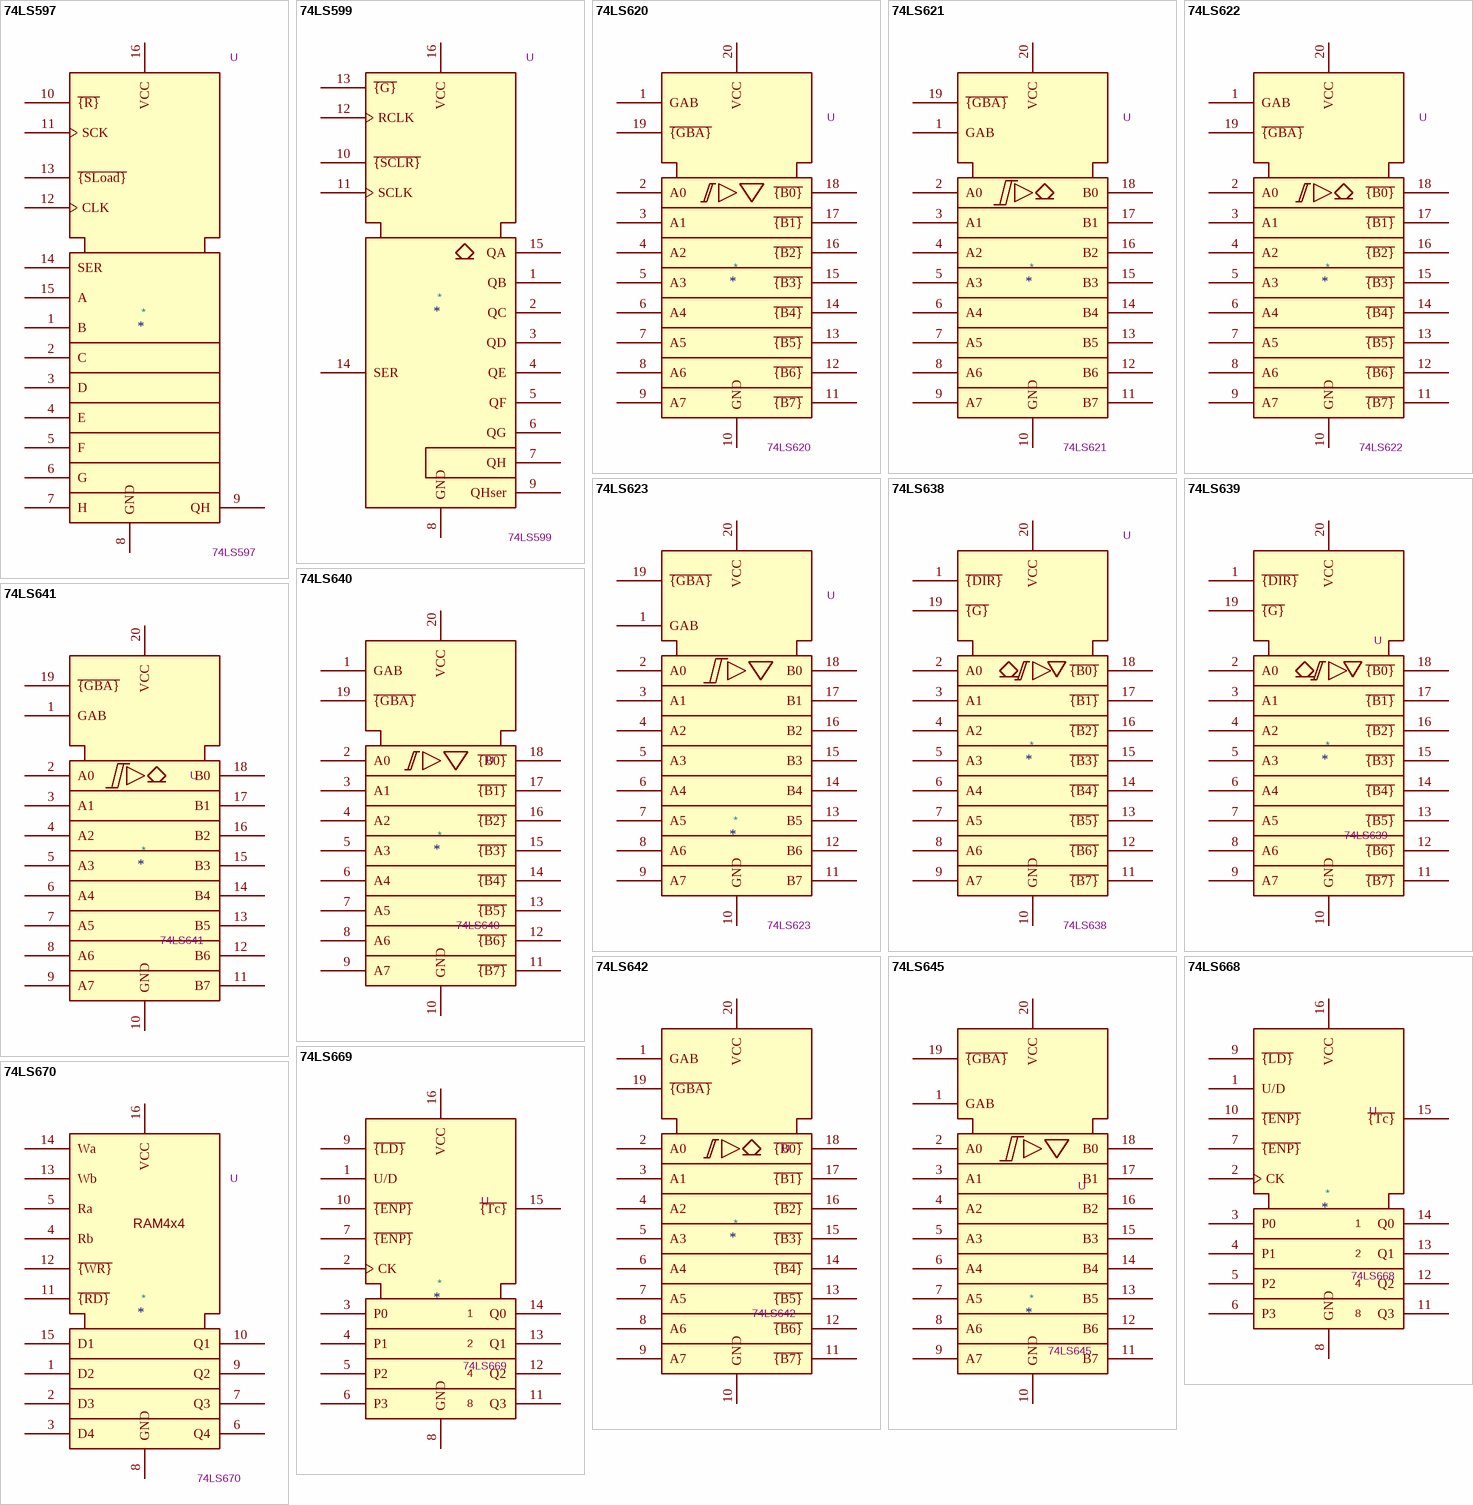
[diagram p6: symbols 74LS597 to 74LS670]

## 74LS597
designator *  value 74LS597  Reference: U
pins: 1 B, 2 C, 3 D, 4 E, 5 F, 6 G, 7 H, 8 GND, 9 QH, 10 ~{{R}}, 11 SCK, 12 CLK, 13 ~{{SLoad}}, 14 SER, 15 A, 16 VCC

## 74LS599
designator *  value 74LS599  Reference: U
pins: 1 QB, 2 QC, 3 QD, 4 QE, 5 QF, 6 QG, 7 QH, 8 GND, 9 QHser, 10 ~{{SCLR}}, 11 SCLK, 12 RCLK, 13 ~{{G}}, 14 SER, 15 QA, 16 VCC

## 74LS620
designator *  value 74LS620  Reference: U
pins: 1 GAB, 2 A0, 3 A1, 4 A2, 5 A3, 6 A4, 7 A5, 8 A6, 9 A7, 10 GND, 11 ~{{B7}}, 12 ~{{B6}}, 13 ~{{B5}}, 14 ~{{B4}}, 15 ~{{B3}}, 16 ~{{B2}}, 17 ~{{B1}}, 18 ~{{B0}}, 19 ~{{GBA}}, 20 VCC

## 74LS621
designator *  value 74LS621  Reference: U
pins: 1 GAB, 2 A0, 3 A1, 4 A2, 5 A3, 6 A4, 7 A5, 8 A6, 9 A7, 10 GND, 11 B7, 12 B6, 13 B5, 14 B4, 15 B3, 16 B2, 17 B1, 18 B0, 19 ~{{GBA}}, 20 VCC

## 74LS622
designator *  value 74LS622  Reference: U
pins: 1 GAB, 2 A0, 3 A1, 4 A2, 5 A3, 6 A4, 7 A5, 8 A6, 9 A7, 10 GND, 11 ~{{B7}}, 12 ~{{B6}}, 13 ~{{B5}}, 14 ~{{B4}}, 15 ~{{B3}}, 16 ~{{B2}}, 17 ~{{B1}}, 18 ~{{B0}}, 19 ~{{GBA}}, 20 VCC

## 74LS623
designator *  value 74LS623  Reference: U
pins: 1 GAB, 2 A0, 3 A1, 4 A2, 5 A3, 6 A4, 7 A5, 8 A6, 9 A7, 10 GND, 11 B7, 12 B6, 13 B5, 14 B4, 15 B3, 16 B2, 17 B1, 18 B0, 19 ~{{GBA}}, 20 VCC

## 74LS638
designator *  value 74LS638  Reference: U
pins: 1 ~{{DIR}}, 2 A0, 3 A1, 4 A2, 5 A3, 6 A4, 7 A5, 8 A6, 9 A7, 10 GND, 11 ~{{B7}}, 12 ~{{B6}}, 13 ~{{B5}}, 14 ~{{B4}}, 15 ~{{B3}}, 16 ~{{B2}}, 17 ~{{B1}}, 18 ~{{B0}}, 19 ~{{G}}, 20 VCC

## 74LS639
designator *  value 74LS639  Reference: U
pins: 1 ~{{DIR}}, 2 A0, 3 A1, 4 A2, 5 A3, 6 A4, 7 A5, 8 A6, 9 A7, 10 GND, 11 ~{{B7}}, 12 ~{{B6}}, 13 ~{{B5}}, 14 ~{{B4}}, 15 ~{{B3}}, 16 ~{{B2}}, 17 ~{{B1}}, 18 ~{{B0}}, 19 ~{{G}}, 20 VCC

## 74LS640
designator *  value 74LS640  Reference: U
pins: 1 GAB, 2 A0, 3 A1, 4 A2, 5 A3, 6 A4, 7 A5, 8 A6, 9 A7, 10 GND, 11 ~{{B7}}, 12 ~{{B6}}, 13 ~{{B5}}, 14 ~{{B4}}, 15 ~{{B3}}, 16 ~{{B2}}, 17 ~{{B1}}, 18 ~{{B0}}, 19 ~{{GBA}}, 20 VCC

## 74LS641
designator *  value 74LS641  Reference: U
pins: 1 GAB, 2 A0, 3 A1, 4 A2, 5 A3, 6 A4, 7 A5, 8 A6, 9 A7, 10 GND, 11 B7, 12 B6, 13 B5, 14 B4, 15 B3, 16 B2, 17 B1, 18 B0, 19 ~{{GBA}}, 20 VCC

## 74LS642
designator *  value 74LS642  Reference: U
pins: 1 GAB, 2 A0, 3 A1, 4 A2, 5 A3, 6 A4, 7 A5, 8 A6, 9 A7, 10 GND, 11 ~{{B7}}, 12 ~{{B6}}, 13 ~{{B5}}, 14 ~{{B4}}, 15 ~{{B3}}, 16 ~{{B2}}, 17 ~{{B1}}, 18 ~{{B0}}, 19 ~{{GBA}}, 20 VCC

## 74LS645
designator *  value 74LS645  Reference: U
pins: 1 GAB, 2 A0, 3 A1, 4 A2, 5 A3, 6 A4, 7 A5, 8 A6, 9 A7, 10 GND, 11 B7, 12 B6, 13 B5, 14 B4, 15 B3, 16 B2, 17 B1, 18 B0, 19 ~{{GBA}}, 20 VCC

## 74LS668
designator *  value 74LS668  Reference: U
pins: 1 U/D, 2 CK, 3 P0, 4 P1, 5 P2, 6 P3, 7 ~{{ENP}}, 8 GND, 9 ~{{LD}}, 10 ~{{ENP}}, 11 Q3, 12 Q2, 13 Q1, 14 Q0, 15 ~{{Tc}}, 16 VCC

## 74LS669
designator *  value 74LS669  Reference: U
pins: 1 U/D, 2 CK, 3 P0, 4 P1, 5 P2, 6 P3, 7 ~{{ENP}}, 8 GND, 9 ~{{LD}}, 10 ~{{ENP}}, 11 Q3, 12 Q2, 13 Q1, 14 Q0, 15 ~{{Tc}}, 16 VCC

## 74LS670
designator *  value 74LS670  Reference: U
pins: 1 D2, 2 D3, 3 D4, 4 Rb, 5 Ra, 6 Q4, 7 Q3, 8 GND, 9 Q2, 10 Q1, 11 ~{{RD}}, 12 ~{{WR}}, 13 Wb, 14 Wa, 15 D1, 16 VCC
text: RAM4x4

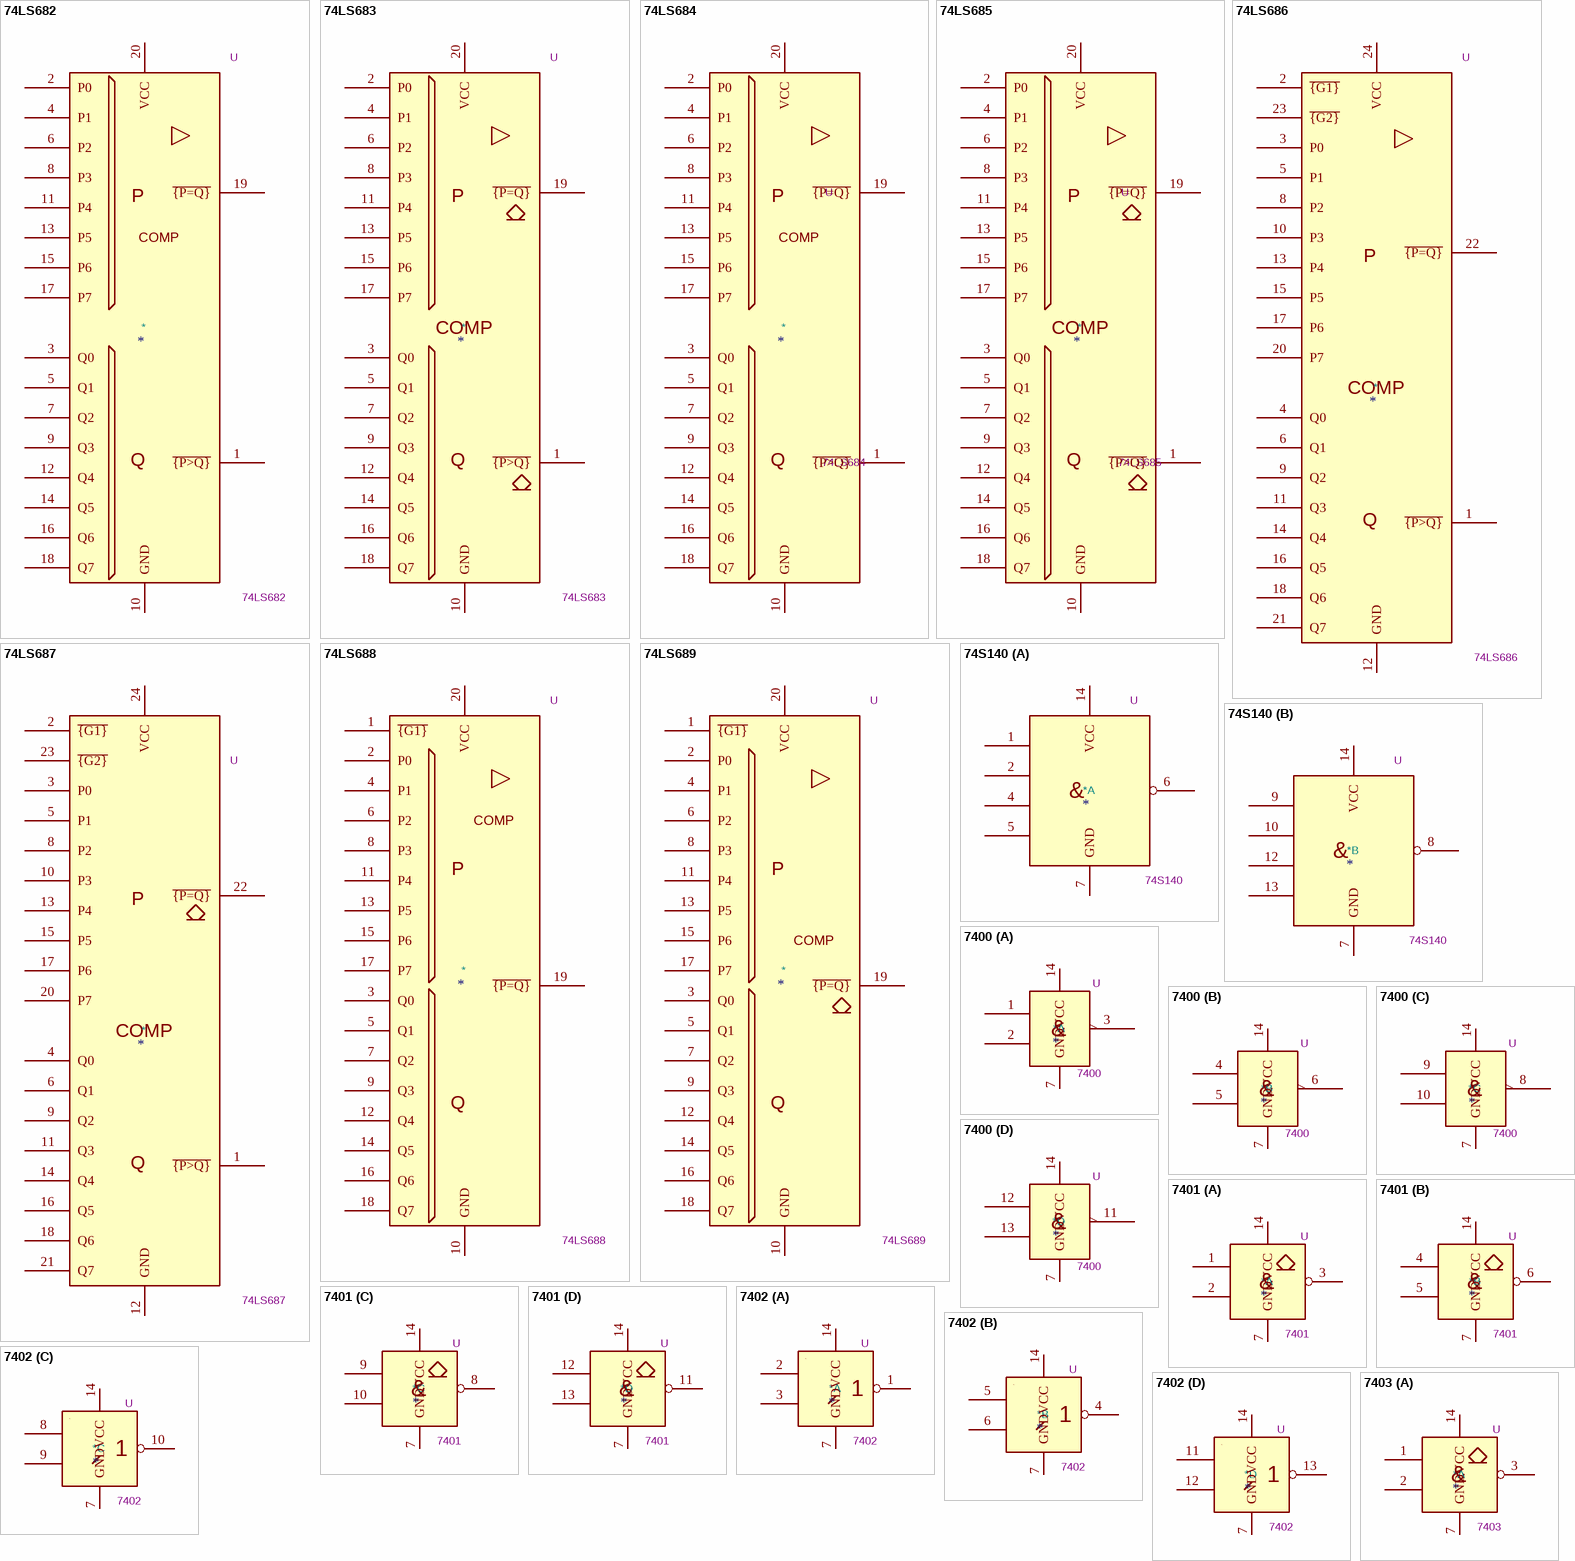
[diagram p7: symbols 74LS682 to 7403]

## 74LS682
designator *  value 74LS682  Reference: U
pins: 1 ~{{P>Q}}, 2 P0, 3 Q0, 4 P1, 5 Q1, 6 P2, 7 Q2, 8 P3, 9 Q3, 10 GND, 11 P4, 12 Q4, 13 P5, 14 Q5, 15 P6, 16 Q6, 17 P7, 18 Q7, 19 ~{{P=Q}}, 20 VCC
text: P; COMP; Q

## 74LS683
designator *  value 74LS683  Reference: U
pins: 1 ~{{P>Q}}, 2 P0, 3 Q0, 4 P1, 5 Q1, 6 P2, 7 Q2, 8 P3, 9 Q3, 10 GND, 11 P4, 12 Q4, 13 P5, 14 Q5, 15 P6, 16 Q6, 17 P7, 18 Q7, 19 ~{{P=Q}}, 20 VCC
text: P; COMP; Q

## 74LS684
designator *  value 74LS684  Reference: U
pins: 1 ~{{P>Q}}, 2 P0, 3 Q0, 4 P1, 5 Q1, 6 P2, 7 Q2, 8 P3, 9 Q3, 10 GND, 11 P4, 12 Q4, 13 P5, 14 Q5, 15 P6, 16 Q6, 17 P7, 18 Q7, 19 ~{{P=Q}}, 20 VCC
text: P; COMP; Q

## 74LS685
designator *  value 74LS685  Reference: U
pins: 1 ~{{P>Q}}, 2 P0, 3 Q0, 4 P1, 5 Q1, 6 P2, 7 Q2, 8 P3, 9 Q3, 10 GND, 11 P4, 12 Q4, 13 P5, 14 Q5, 15 P6, 16 Q6, 17 P7, 18 Q7, 19 ~{{P=Q}}, 20 VCC
text: P; COMP; Q

## 74LS686
designator *  value 74LS686  Reference: U
pins: 1 ~{{P>Q}}, 2 ~{{G1}}, 3 P0, 4 Q0, 5 P1, 6 Q1, 8 P2, 9 Q2, 10 P3, 11 Q3, 12 GND, 13 P4, 14 Q4, 15 P5, 16 Q5, 17 P6, 18 Q6, 20 P7, 21 Q7, 22 ~{{P=Q}}, 23 ~{{G2}}, 24 VCC
text: P; COMP; Q

## 74LS687
designator *  value 74LS687  Reference: U
pins: 1 ~{{P>Q}}, 2 ~{{G1}}, 3 P0, 4 Q0, 5 P1, 6 Q1, 8 P2, 9 Q2, 10 P3, 11 Q3, 12 GND, 13 P4, 14 Q4, 15 P5, 16 Q5, 17 P6, 18 Q6, 20 P7, 21 Q7, 22 ~{{P=Q}}, 23 ~{{G2}}, 24 VCC
text: P; COMP; Q

## 74LS688
designator *  value 74LS688  Reference: U
pins: 1 ~{{G1}}, 2 P0, 3 Q0, 4 P1, 5 Q1, 6 P2, 7 Q2, 8 P3, 9 Q3, 10 GND, 11 P4, 12 Q4, 13 P5, 14 Q5, 15 P6, 16 Q6, 17 P7, 18 Q7, 19 ~{{P=Q}}, 20 VCC
text: COMP; P; Q

## 74LS689
designator *  value 74LS689  Reference: U
pins: 1 ~{{G1}}, 2 P0, 3 Q0, 4 P1, 5 Q1, 6 P2, 7 Q2, 8 P3, 9 Q3, 10 GND, 11 P4, 12 Q4, 13 P5, 14 Q5, 15 P6, 16 Q6, 17 P7, 18 Q7, 19 ~{{P=Q}}, 20 VCC
text: P; COMP; Q

## 74S140
designator *  value 74S140  Reference: U
part A pins: 1, 2, 4, 5, 6, 7 GND, 14 VCC
part B pins: 7 GND, 8, 9, 10, 12, 13, 14 VCC
part A text: &
part B text: &

## 7400
designator *  value 7400  Reference: U
part A pins: 1, 2, 3, 7 GND, 14 VCC
part B pins: 4, 5, 6, 7 GND, 14 VCC
part C pins: 7 GND, 8, 9, 10, 14 VCC
part D pins: 7 GND, 11, 12, 13, 14 VCC
part A text: &
part B text: &
part C text: &
part D text: &

## 7401
designator *  value 7401  Reference: U
part A pins: 1, 2, 3, 7 GND, 14 VCC
part B pins: 4, 5, 6, 7 GND, 14 VCC
part C pins: 7 GND, 8, 9, 10, 14 VCC
part D pins: 7 GND, 11, 12, 13, 14 VCC
part A text: &
part B text: &
part C text: &
part D text: &

## 7402
designator *  value 7402  Reference: U
part A pins: 1, 2, 3, 7 GND, 14 VCC
part B pins: 4, 5, 6, 7 GND, 14 VCC
part C pins: 7 GND, 8, 9, 10, 14 VCC
part D pins: 7 GND, 11, 12, 13, 14 VCC

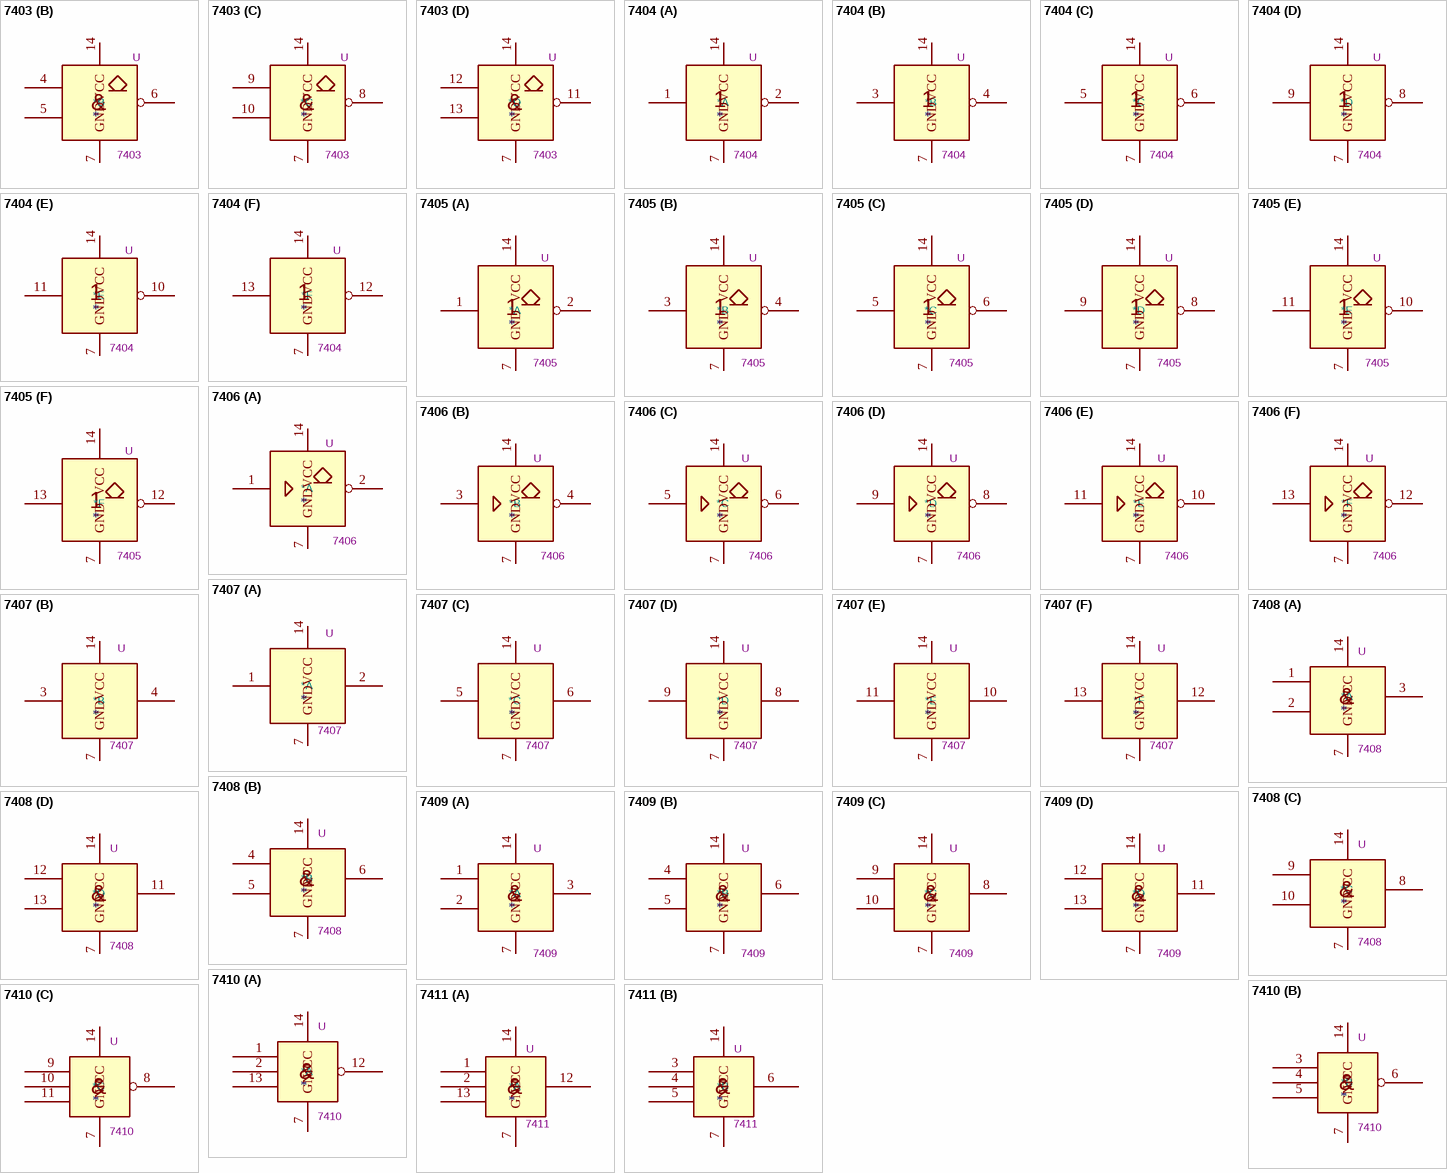
[diagram p8: symbols 7403 to 7411]

## 7403
designator *  value 7403  Reference: U
part A pins: 1, 2, 3, 7 GND, 14 VCC
part B pins: 4, 5, 6, 7 GND, 14 VCC
part C pins: 7 GND, 8, 9, 10, 14 VCC
part D pins: 7 GND, 11, 12, 13, 14 VCC
part A text: &
part B text: &
part C text: &
part D text: &

## 7404
designator *  value 7404  Reference: U
part A pins: 1, 2, 7 GND, 14 VCC
part B pins: 3, 4, 7 GND, 14 VCC
part C pins: 5, 6, 7 GND, 14 VCC
part D pins: 7 GND, 8, 9, 14 VCC
part E pins: 7 GND, 10, 11, 14 VCC
part F pins: 7 GND, 12, 13, 14 VCC

## 7405
designator *  value 7405  Reference: U
part A pins: 1, 2, 7 GND, 14 VCC
part B pins: 3, 4, 7 GND, 14 VCC
part C pins: 5, 6, 7 GND, 14 VCC
part D pins: 7 GND, 8, 9, 14 VCC
part E pins: 7 GND, 10, 11, 14 VCC
part F pins: 7 GND, 12, 13, 14 VCC

## 7406
designator *  value 7406  Reference: U
part A pins: 1, 2, 7 GND, 14 VCC
part B pins: 3, 4, 7 GND, 14 VCC
part C pins: 5, 6, 7 GND, 14 VCC
part D pins: 7 GND, 8, 9, 14 VCC
part E pins: 7 GND, 10, 11, 14 VCC
part F pins: 7 GND, 12, 13, 14 VCC

## 7407
designator *  value 7407  Reference: U
part A pins: 1, 2, 7 GND, 14 VCC
part B pins: 3, 4, 7 GND, 14 VCC
part C pins: 5, 6, 7 GND, 14 VCC
part D pins: 7 GND, 8, 9, 14 VCC
part E pins: 7 GND, 10, 11, 14 VCC
part F pins: 7 GND, 12, 13, 14 VCC

## 7408
designator *  value 7408  Reference: U
part A pins: 1, 2, 3, 7 GND, 14 VCC
part B pins: 4, 5, 6, 7 GND, 14 VCC
part C pins: 7 GND, 8, 9, 10, 14 VCC
part D pins: 7 GND, 11, 12, 13, 14 VCC
part A text: &
part B text: &
part C text: &
part D text: &

## 7409
designator *  value 7409  Reference: U
part A pins: 1, 2, 3, 7 GND, 14 VCC
part B pins: 4, 5, 6, 7 GND, 14 VCC
part C pins: 7 GND, 8, 9, 10, 14 VCC
part D pins: 7 GND, 11, 12, 13, 14 VCC
part A text: &
part B text: &
part C text: &
part D text: &

## 7410
designator *  value 7410  Reference: U
part A pins: 1, 2, 7 GND, 12, 13, 14 VCC
part B pins: 3, 4, 5, 6, 7 GND, 14 VCC
part C pins: 7 GND, 8, 9, 10, 11, 14 VCC
part A text: &
part B text: &
part C text: &

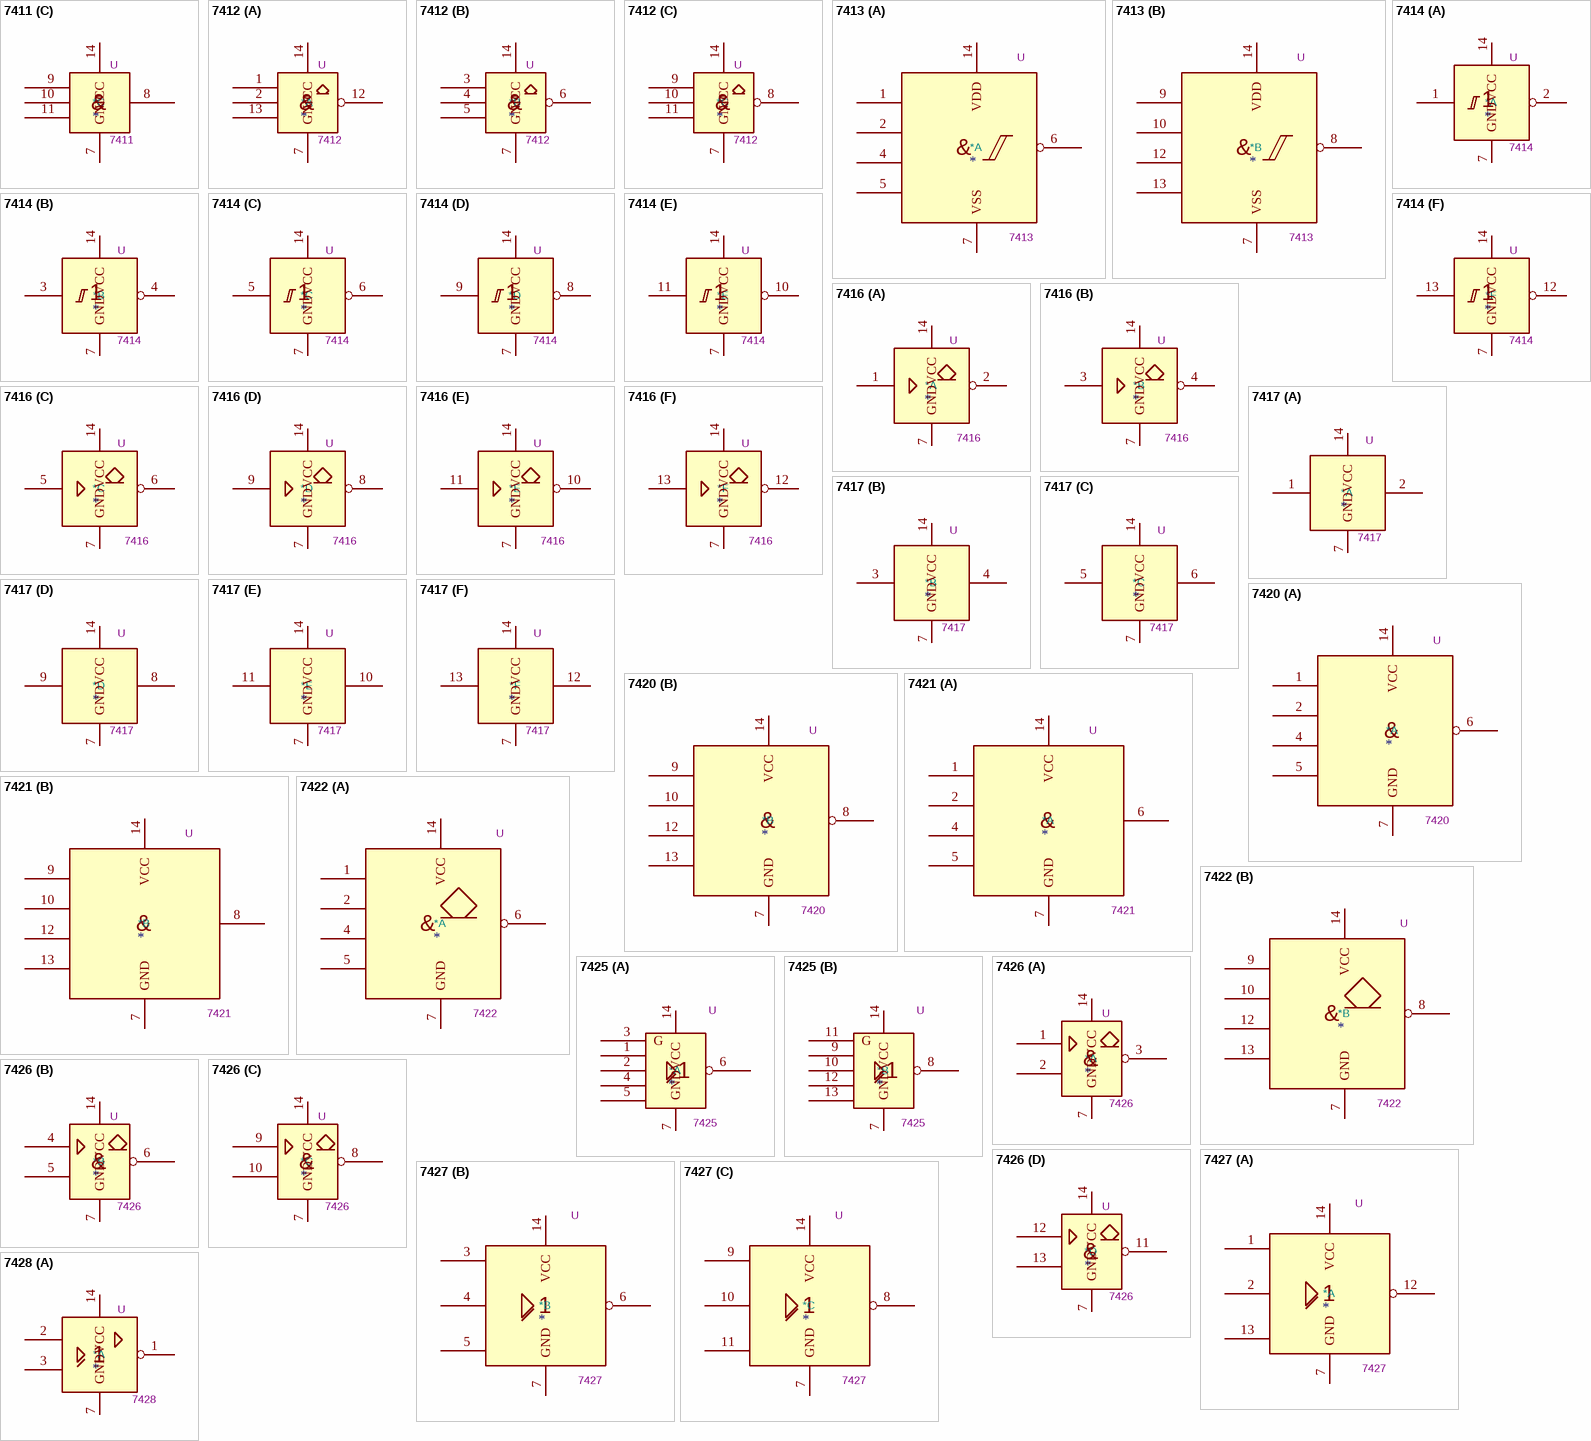
[diagram p9: symbols 7411 to 7428]

## 7411
designator *  value 7411  Reference: U
part A pins: 1, 2, 7 GND, 12, 13, 14 VCC
part B pins: 3, 4, 5, 6, 7 GND, 14 VCC
part C pins: 7 GND, 8, 9, 10, 11, 14 VCC
part A text: &
part B text: &
part C text: &

## 7412
designator *  value 7412  Reference: U
part A pins: 1, 2, 7 GND, 12, 13, 14 VCC
part B pins: 3, 4, 5, 6, 7 GND, 14 VCC
part C pins: 7 GND, 8, 9, 10, 11, 14 VCC
part A text: &
part B text: &
part C text: &

## 7413
designator *  value 7413  Reference: U
part A pins: 1, 2, 4, 5, 6, 7 VSS, 14 VDD
part B pins: 7 VSS, 8, 9, 10, 12, 13, 14 VDD
part A text: &
part B text: &

## 7414
designator *  value 7414  Reference: U
part A pins: 1, 2, 7 GND, 14 VCC
part B pins: 3, 4, 7 GND, 14 VCC
part C pins: 5, 6, 7 GND, 14 VCC
part D pins: 7 GND, 8, 9, 14 VCC
part E pins: 7 GND, 10, 11, 14 VCC
part F pins: 7 GND, 12, 13, 14 VCC

## 7416
designator *  value 7416  Reference: U
part A pins: 1, 2, 7 GND, 14 VCC
part B pins: 3, 4, 7 GND, 14 VCC
part C pins: 5, 6, 7 GND, 14 VCC
part D pins: 7 GND, 8, 9, 14 VCC
part E pins: 7 GND, 10, 11, 14 VCC
part F pins: 7 GND, 12, 13, 14 VCC

## 7417
designator *  value 7417  Reference: U
part A pins: 1, 2, 7 GND, 14 VCC
part B pins: 3, 4, 7 GND, 14 VCC
part C pins: 5, 6, 7 GND, 14 VCC
part D pins: 7 GND, 8, 9, 14 VCC
part E pins: 7 GND, 10, 11, 14 VCC
part F pins: 7 GND, 12, 13, 14 VCC

## 7420
designator *  value 7420  Reference: U
part A pins: 1, 2, 4, 5, 6, 7 GND, 14 VCC
part B pins: 7 GND, 8, 9, 10, 12, 13, 14 VCC
part A text: &
part B text: &

## 7421
designator *  value 7421  Reference: U
part A pins: 1, 2, 4, 5, 6, 7 GND, 14 VCC
part B pins: 7 GND, 8, 9, 10, 12, 13, 14 VCC
part A text: &
part B text: &

## 7422
designator *  value 7422  Reference: U
part A pins: 1, 2, 4, 5, 6, 7 GND, 14 VCC
part B pins: 7 GND, 8, 9, 10, 12, 13, 14 VCC
part A text: &
part B text: &

## 7425
designator *  value 7425  Reference: U
part A pins: 1, 2, 3 G, 4, 5, 6, 7 GND, 14 VCC
part B pins: 7 GND, 8, 9, 10, 11 G, 12, 13, 14 VCC

## 7426
designator *  value 7426  Reference: U
part A pins: 1, 2, 3, 7 GND, 14 VCC
part B pins: 4, 5, 6, 7 GND, 14 VCC
part C pins: 7 GND, 8, 9, 10, 14 VCC
part D pins: 7 GND, 11, 12, 13, 14 VCC
part A text: &
part B text: &
part C text: &
part D text: &

## 7427
designator *  value 7427  Reference: U
part A pins: 1, 2, 7 GND, 12, 13, 14 VCC
part B pins: 3, 4, 5, 6, 7 GND, 14 VCC
part C pins: 7 GND, 8, 9, 10, 11, 14 VCC

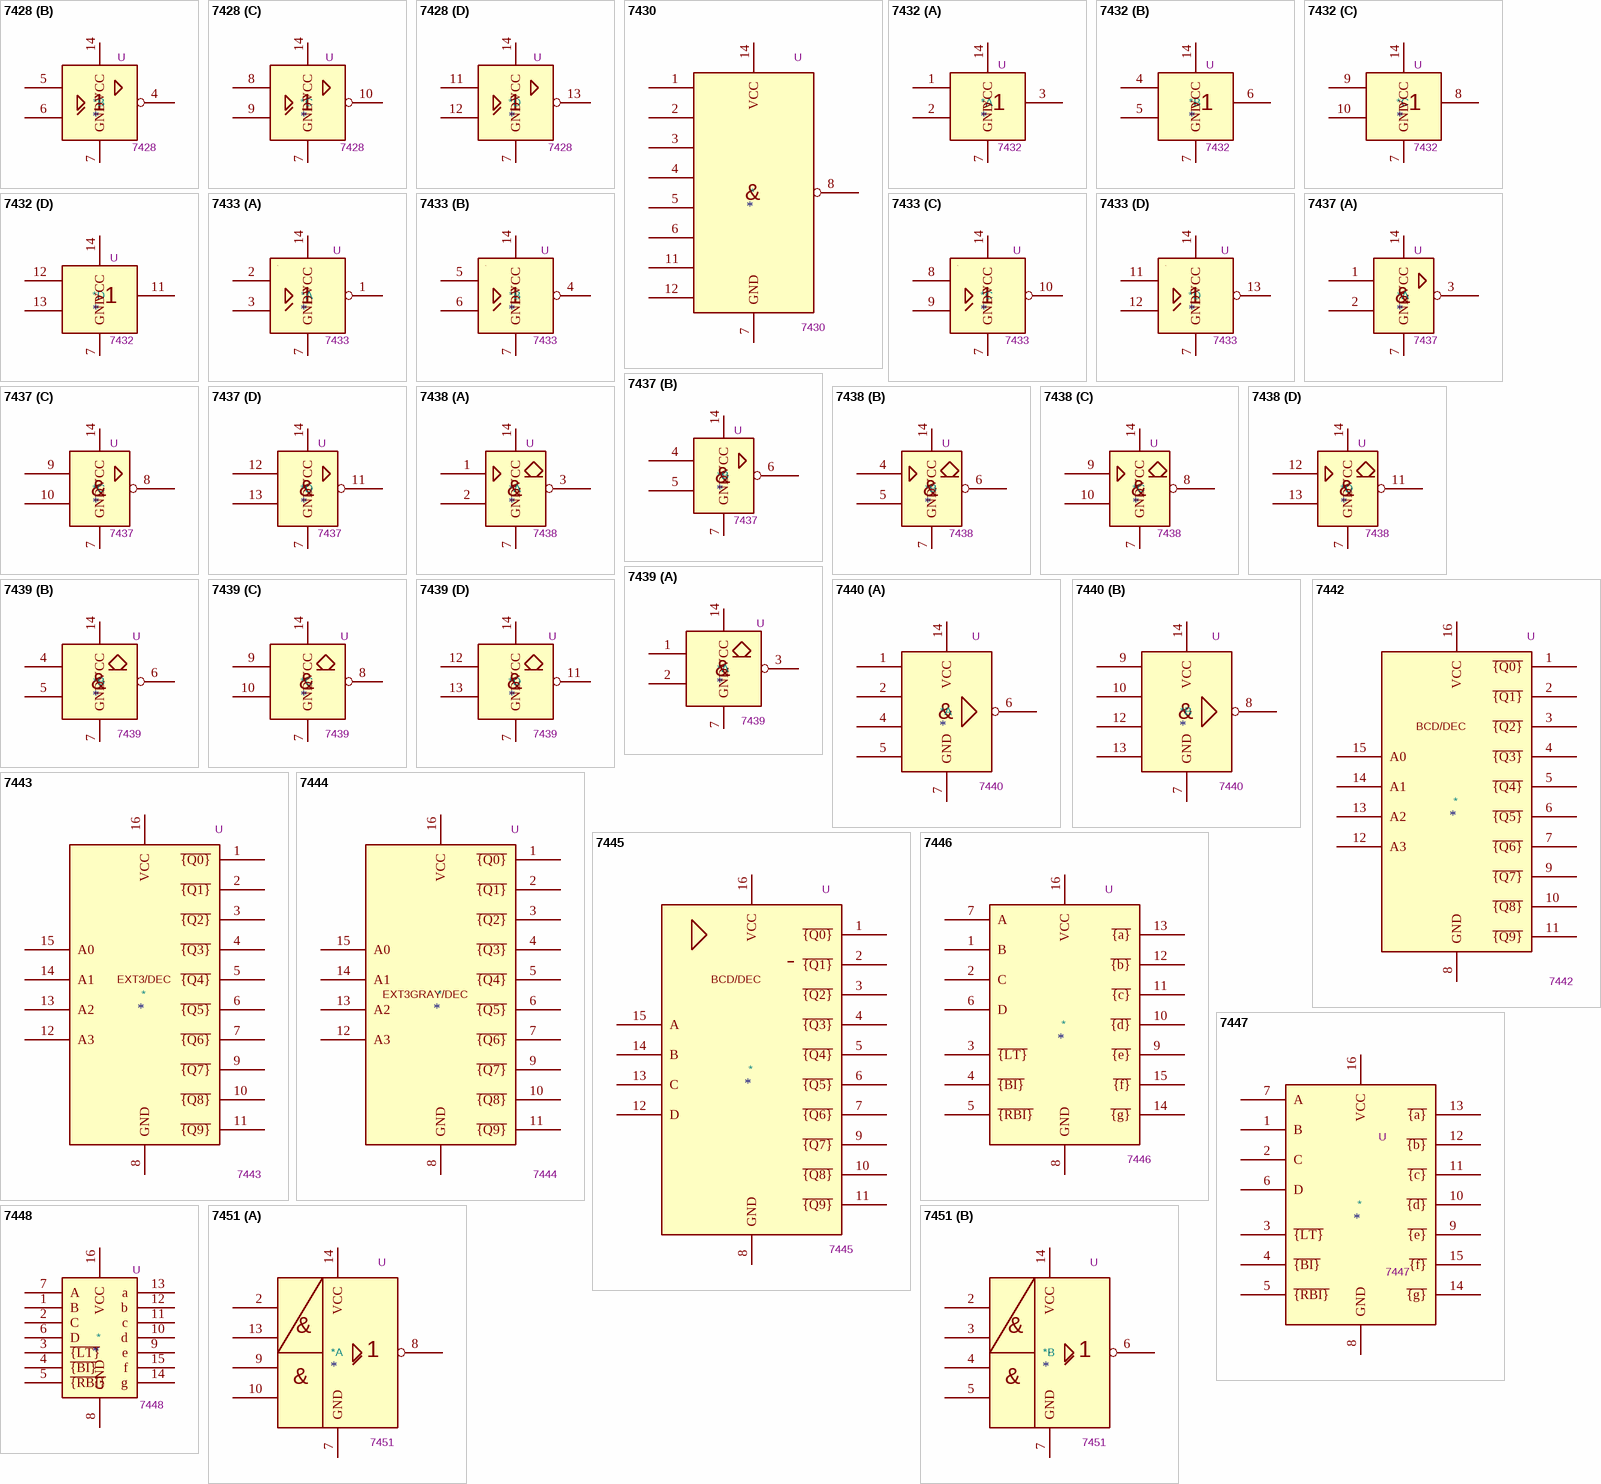
[diagram p10: symbols 7428 to 7451]

## 7428
designator *  value 7428  Reference: U
part A pins: 1, 2, 3, 7 GND, 14 VCC
part B pins: 4, 5, 6, 7 GND, 14 VCC
part C pins: 7 GND, 8, 9, 10, 14 VCC
part D pins: 7 GND, 11, 12, 13, 14 VCC

## 7430
designator *  value 7430  Reference: U
pins: 1, 2, 3, 4, 5, 6, 7 GND, 8, 11, 12, 14 VCC
text: &

## 7432
designator *  value 7432  Reference: U
part A pins: 1, 2, 3, 7 GND, 14 VCC
part B pins: 4, 5, 6, 7 GND, 14 VCC
part C pins: 7 GND, 8, 9, 10, 14 VCC
part D pins: 7 GND, 11, 12, 13, 14 VCC

## 7433
designator *  value 7433  Reference: U
part A pins: 1, 2, 3, 7 GND, 14 VCC
part B pins: 4, 5, 6, 7 GND, 14 VCC
part C pins: 7 GND, 8, 9, 10, 14 VCC
part D pins: 7 GND, 11, 12, 13, 14 VCC

## 7437
designator *  value 7437  Reference: U
part A pins: 1, 2, 3, 7 GND, 14 VCC
part B pins: 4, 5, 6, 7 GND, 14 VCC
part C pins: 7 GND, 8, 9, 10, 14 VCC
part D pins: 7 GND, 11, 12, 13, 14 VCC
part A text: &
part B text: &
part C text: &
part D text: &

## 7438
designator *  value 7438  Reference: U
part A pins: 1, 2, 3, 7 GND, 14 VCC
part B pins: 4, 5, 6, 7 GND, 14 VCC
part C pins: 7 GND, 8, 9, 10, 14 VCC
part D pins: 7 GND, 11, 12, 13, 14 VCC
part A text: &
part B text: &
part C text: &
part D text: &

## 7439
designator *  value 7439  Reference: U
part A pins: 1, 2, 3, 7 GND, 14 VCC
part B pins: 4, 5, 6, 7 GND, 14 VCC
part C pins: 7 GND, 8, 9, 10, 14 VCC
part D pins: 7 GND, 11, 12, 13, 14 VCC
part A text: &
part B text: &
part C text: &
part D text: &

## 7440
designator *  value 7440  Reference: U
part A pins: 1, 2, 4, 5, 6, 7 GND, 14 VCC
part B pins: 7 GND, 8, 9, 10, 12, 13, 14 VCC
part A text: &
part B text: &

## 7442
designator *  value 7442  Reference: U
pins: 1 ~{{Q0}}, 2 ~{{Q1}}, 3 ~{{Q2}}, 4 ~{{Q3}}, 5 ~{{Q4}}, 6 ~{{Q5}}, 7 ~{{Q6}}, 8 GND, 9 ~{{Q7}}, 10 ~{{Q8}}, 11 ~{{Q9}}, 12 A3, 13 A2, 14 A1, 15 A0, 16 VCC
text: BCD/DEC

## 7443
designator *  value 7443  Reference: U
pins: 1 ~{{Q0}}, 2 ~{{Q1}}, 3 ~{{Q2}}, 4 ~{{Q3}}, 5 ~{{Q4}}, 6 ~{{Q5}}, 7 ~{{Q6}}, 8 GND, 9 ~{{Q7}}, 10 ~{{Q8}}, 11 ~{{Q9}}, 12 A3, 13 A2, 14 A1, 15 A0, 16 VCC
text: EXT3/DEC

## 7444
designator *  value 7444  Reference: U
pins: 1 ~{{Q0}}, 2 ~{{Q1}}, 3 ~{{Q2}}, 4 ~{{Q3}}, 5 ~{{Q4}}, 6 ~{{Q5}}, 7 ~{{Q6}}, 8 GND, 9 ~{{Q7}}, 10 ~{{Q8}}, 11 ~{{Q9}}, 12 A3, 13 A2, 14 A1, 15 A0, 16 VCC
text: EXT3GRAY/DEC

## 7445
designator *  value 7445  Reference: U
pins: 1 ~{{Q0}}, 2 ~{{Q1}}, 3 ~{{Q2}}, 4 ~{{Q3}}, 5 ~{{Q4}}, 6 ~{{Q5}}, 7 ~{{Q6}}, 8 GND, 9 ~{{Q7}}, 10 ~{{Q8}}, 11 ~{{Q9}}, 12 D, 13 C, 14 B, 15 A, 16 VCC
text: BCD/DEC

## 7446
designator *  value 7446  Reference: U
pins: 1 B, 2 C, 3 ~{{LT}}, 4 ~{{BI}}, 5 ~{{RBI}}, 6 D, 7 A, 8 GND, 9 ~{{e}}, 10 ~{{d}}, 11 ~{{c}}, 12 ~{{b}}, 13 ~{{a}}, 14 ~{{g}}, 15 ~{{f}}, 16 VCC

## 7447
designator *  value 7447  Reference: U
pins: 1 B, 2 C, 3 ~{{LT}}, 4 ~{{BI}}, 5 ~{{RBI}}, 6 D, 7 A, 8 GND, 9 ~{{e}}, 10 ~{{d}}, 11 ~{{c}}, 12 ~{{b}}, 13 ~{{a}}, 14 ~{{g}}, 15 ~{{f}}, 16 VCC

## 7448
designator *  value 7448  Reference: U
pins: 1 B, 2 C, 3 ~{{LT}}, 4 ~{{BI}}, 5 ~{{RBI}}, 6 D, 7 A, 8 GND, 9 e, 10 d, 11 c, 12 b, 13 a, 14 g, 15 f, 16 VCC

## 7451
designator *  value 7451  Reference: U
part A pins: 2, 7 GND, 8, 9, 10, 13, 14 VCC
part B pins: 2, 3, 4, 5, 6, 7 GND, 14 VCC
part A text: &; 1
part B text: &; 1

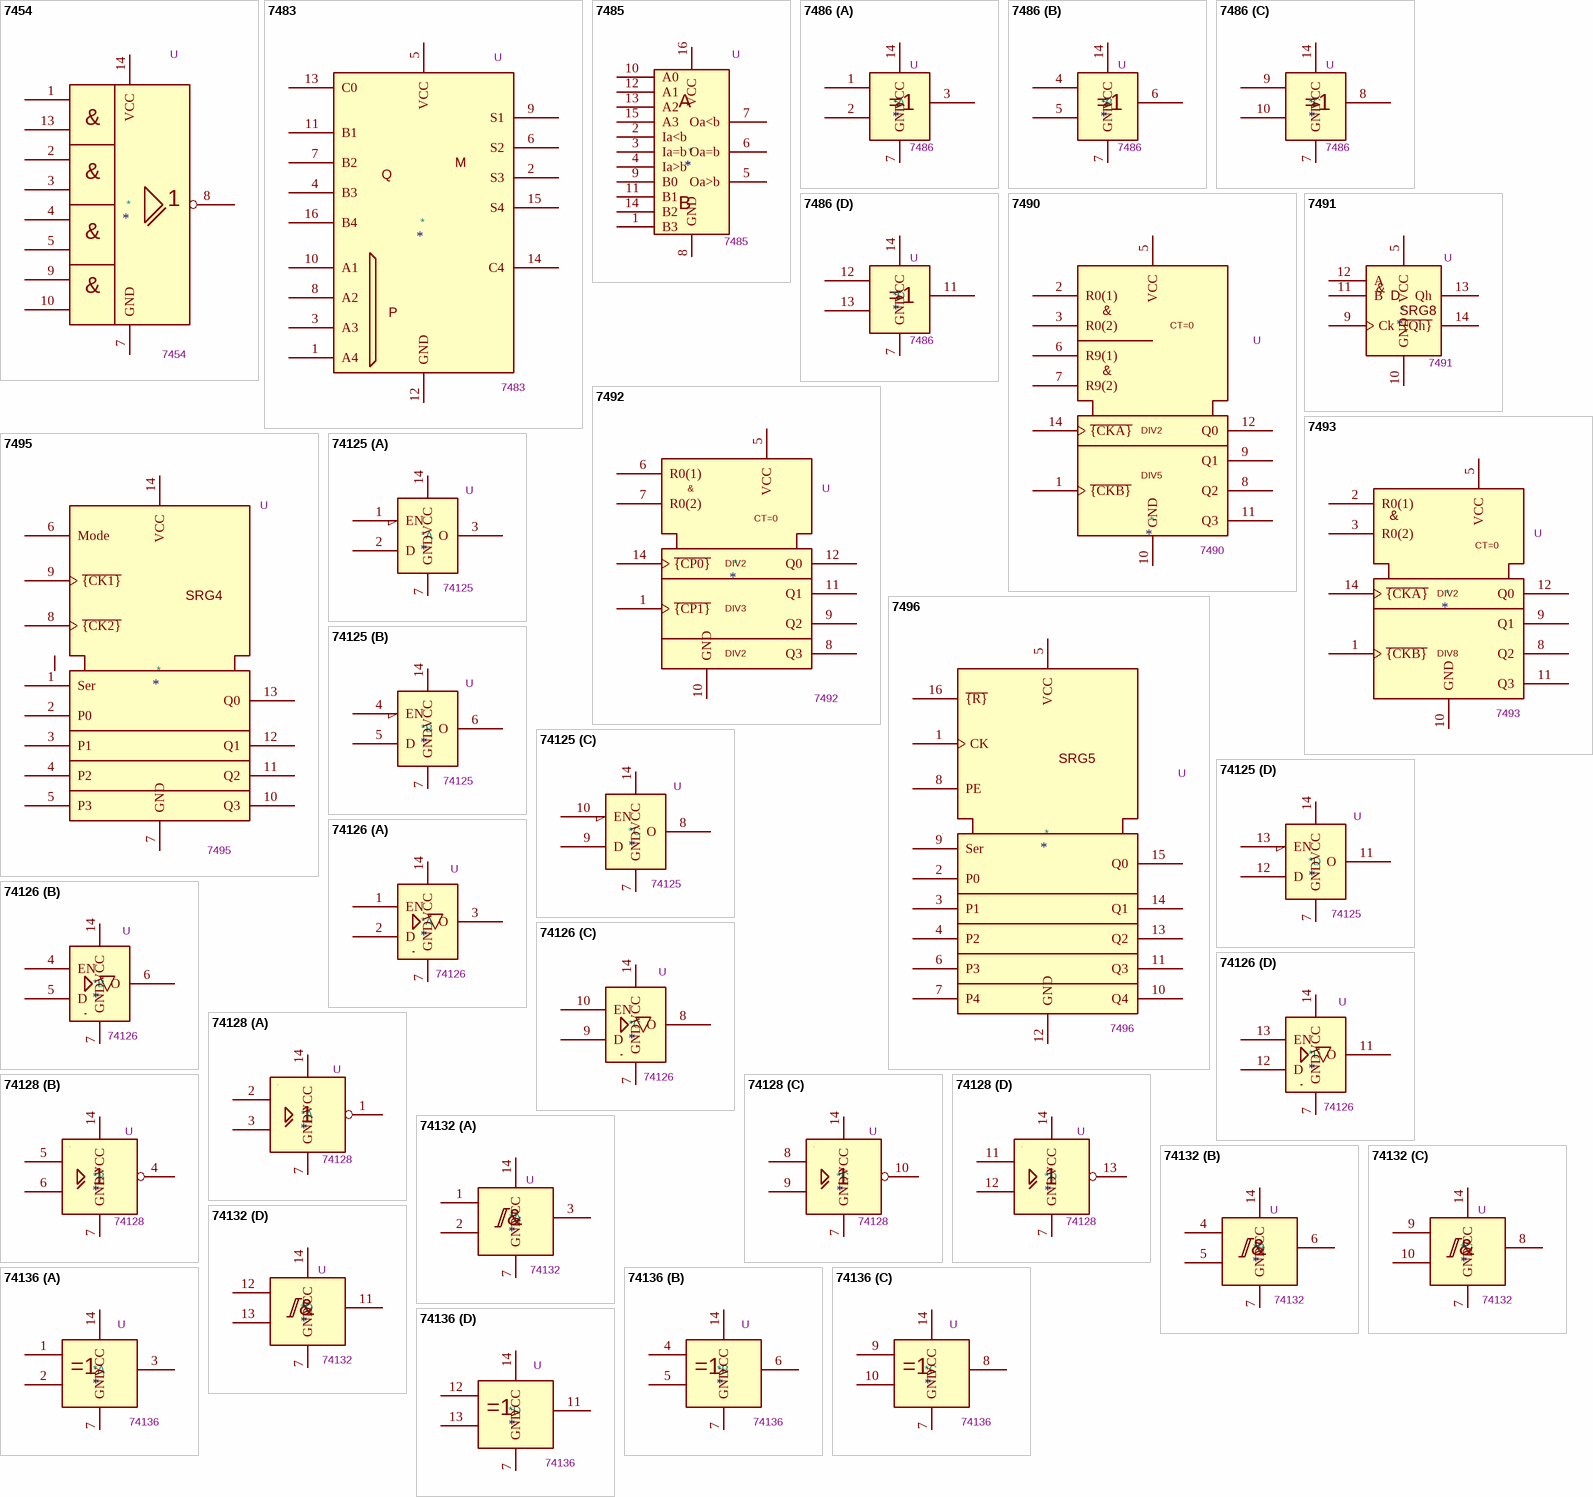
[diagram p11: symbols 7454 to 74136]

## 7454
designator *  value 7454  Reference: U
pins: 1, 2, 3, 4, 5, 7 GND, 8, 9, 10, 13, 14 VCC
text: &

## 7483
designator *  value 7483  Reference: U
pins: 1 A4, 2 S3, 3 A3, 4 B3, 5 VCC, 6 S2, 7 B2, 8 A2, 9 S1, 10 A1, 11 B1, 12 GND, 13 C0, 14 C4, 15 S4, 16 B4
text: M; Q; P

## 7485
designator *  value 7485  Reference: U
pins: 1 B3, 2 Ia<b, 3 Ia=b, 4 Ia>b, 5 Oa>b, 6 Oa=b, 7 Oa<b, 8 GND, 9 B0, 10 A0, 11 B1, 12 A1, 13 A2, 14 B2, 15 A3, 16 VCC
text: A; B

## 7486
designator *  value 7486  Reference: U
part A pins: 1, 2, 3, 7 GND, 14 VCC
part B pins: 4, 5, 6, 7 GND, 14 VCC
part C pins: 7 GND, 8, 9, 10, 14 VCC
part D pins: 7 GND, 11, 12, 13, 14 VCC

## 7490
designator *  value 7490  Reference: U
pins: 1 ~{{CKB}}, 2 R0(1), 3 R0(2), 5 VCC, 6 R9(1), 7 R9(2), 8 Q2, 9 Q1, 10 GND, 11 Q3, 12 Q0, 14 ~{{CKA}}
text: &; CT=0; DIV2; DIV5

## 7491
designator *  value 7491  Reference: U
pins: 5 VCC, 9 Ck, 10 GND, 11 B, 12 A, 13 Qh, 14 ~{{Qh}}
text: &; D; SRG8

## 7492
designator *  value 7492  Reference: U
pins: 1 ~{{CP1}}, 5 VCC, 6 R0(1), 7 R0(2), 8 Q3, 9 Q2, 10 GND, 11 Q1, 12 Q0, 14 ~{{CP0}}
text: &; CT=0; DIV2; DIV3

## 7493
designator *  value 7493  Reference: U
pins: 1 ~{{CKB}}, 2 R0(1), 3 R0(2), 5 VCC, 8 Q2, 9 Q1, 10 GND, 11 Q3, 12 Q0, 14 ~{{CKA}}
text: &; CT=0; DIV2; DIV8

## 7495
designator *  value 7495  Reference: U
pins: 1 Ser, 2 P0, 3 P1, 4 P2, 5 P3, 6 Mode, 7 GND, 8 ~{{CK2}}, 9 ~{{CK1}}, 10 Q3, 11 Q2, 12 Q1, 13 Q0, 14 VCC
text: SRG4

## 7496
designator *  value 7496  Reference: U
pins: 1 CK, 2 P0, 3 P1, 4 P2, 5 VCC, 6 P3, 7 P4, 8 PE, 9 Ser, 10 Q4, 11 Q3, 12 GND, 13 Q2, 14 Q1, 15 Q0, 16 ~{{R}}
text: SRG5

## 74125
designator *  value 74125  Reference: U
part A pins: 1 EN, 2 D, 3 O, 7 GND, 14 VCC
part B pins: 4 EN, 5 D, 6 O, 7 GND, 14 VCC
part C pins: 7 GND, 8 O, 9 D, 10 EN, 14 VCC
part D pins: 7 GND, 11 O, 12 D, 13 EN, 14 VCC

## 74126
designator *  value 74126  Reference: U
part A pins: 1 EN, 2 D, 3 O, 7 GND, 14 VCC
part B pins: 4 EN, 5 D, 6 O, 7 GND, 14 VCC
part C pins: 7 GND, 8 O, 9 D, 10 EN, 14 VCC
part D pins: 7 GND, 11 O, 12 D, 13 EN, 14 VCC

## 74128
designator *  value 74128  Reference: U
part A pins: 1, 2, 3, 7 GND, 14 VCC
part B pins: 4, 5, 6, 7 GND, 14 VCC
part C pins: 7 GND, 8, 9, 10, 14 VCC
part D pins: 7 GND, 11, 12, 13, 14 VCC

## 74132
designator *  value 74132  Reference: U
part A pins: 1, 2, 3, 7 GND, 14 VCC
part B pins: 4, 5, 6, 7 GND, 14 VCC
part C pins: 7 GND, 8, 9, 10, 14 VCC
part D pins: 7 GND, 11, 12, 13, 14 VCC
part A text: &
part B text: &
part C text: &
part D text: &

## 74136
designator *  value 74136  Reference: U
part A pins: 1, 2, 3, 7 GND, 14 VCC
part B pins: 4, 5, 6, 7 GND, 14 VCC
part C pins: 7 GND, 8, 9, 10, 14 VCC
part D pins: 7 GND, 11, 12, 13, 14 VCC

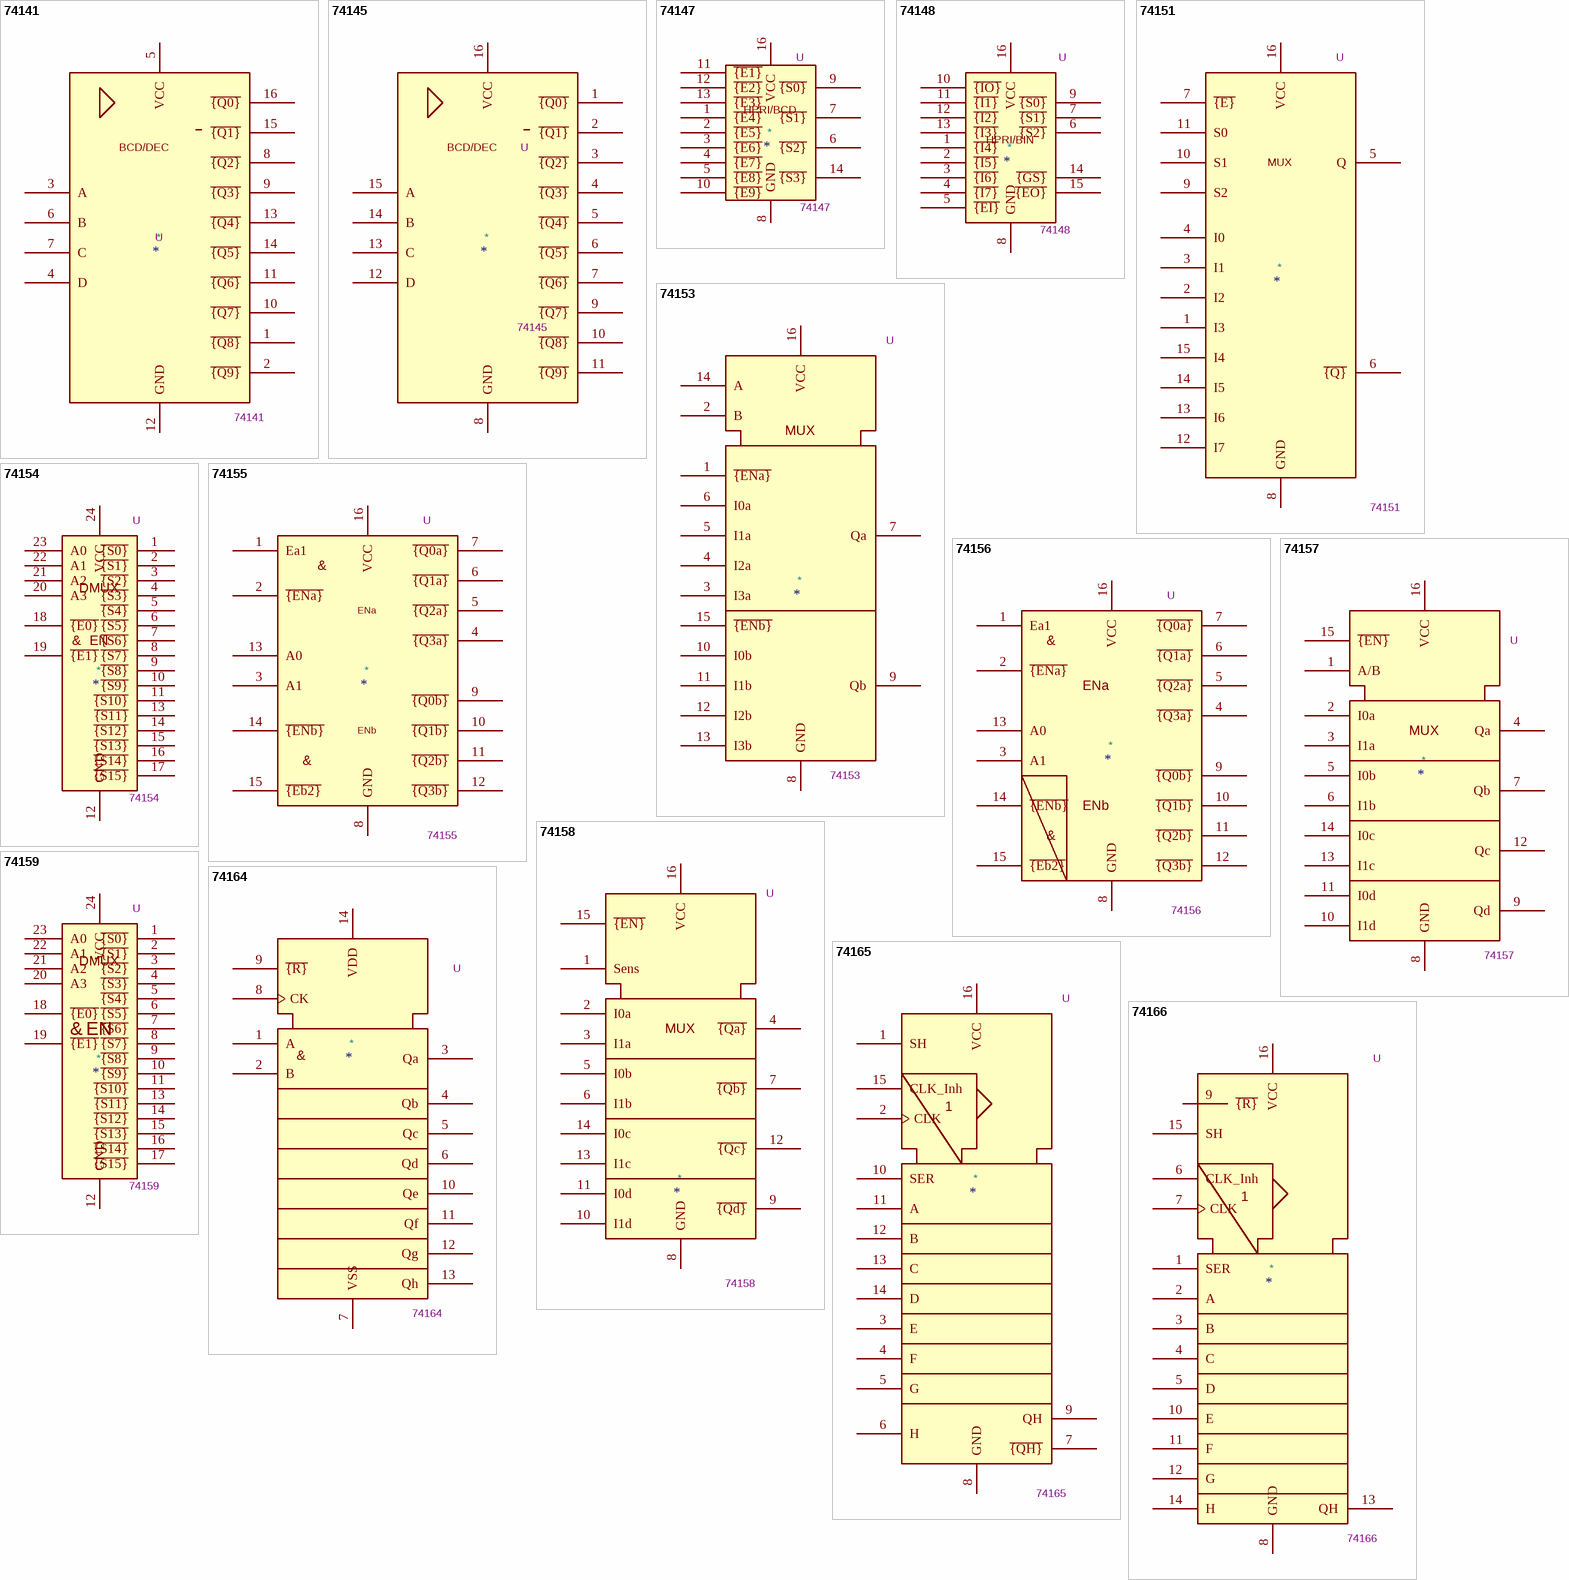
[diagram p12: symbols 74141 to 74166]

## 74141
designator *  value 74141  Reference: U
pins: 1 ~{{Q8}}, 2 ~{{Q9}}, 3 A, 4 D, 5 VCC, 6 B, 7 C, 8 ~{{Q2}}, 9 ~{{Q3}}, 10 ~{{Q7}}, 11 ~{{Q6}}, 12 GND, 13 ~{{Q4}}, 14 ~{{Q5}}, 15 ~{{Q1}}, 16 ~{{Q0}}
text: BCD/DEC

## 74145
designator *  value 74145  Reference: U
pins: 1 ~{{Q0}}, 2 ~{{Q1}}, 3 ~{{Q2}}, 4 ~{{Q3}}, 5 ~{{Q4}}, 6 ~{{Q5}}, 7 ~{{Q6}}, 8 GND, 9 ~{{Q7}}, 10 ~{{Q8}}, 11 ~{{Q9}}, 12 D, 13 C, 14 B, 15 A, 16 VCC
text: BCD/DEC

## 74147
designator *  value 74147  Reference: U
pins: 1 ~{{E4}}, 2 ~{{E5}}, 3 ~{{E6}}, 4 ~{{E7}}, 5 ~{{E8}}, 6 ~{{S2}}, 7 ~{{S1}}, 8 GND, 9 ~{{S0}}, 10 ~{{E9}}, 11 ~{{E1}}, 12 ~{{E2}}, 13 ~{{E3}}, 14 ~{{S3}}, 16 VCC
text: HPRI/BCD

## 74148
designator *  value 74148  Reference: U
pins: 1 ~{{I4}}, 2 ~{{I5}}, 3 ~{{I6}}, 4 ~{{I7}}, 5 ~{{EI}}, 6 ~{{S2}}, 7 ~{{S1}}, 8 GND, 9 ~{{S0}}, 10 ~{{IO}}, 11 ~{{I1}}, 12 ~{{I2}}, 13 ~{{I3}}, 14 ~{{GS}}, 15 ~{{EO}}, 16 VCC
text: HPRI/BIN

## 74151
designator *  value 74151  Reference: U
pins: 1 I3, 2 I2, 3 I1, 4 I0, 5 Q, 6 ~{{Q}}, 7 ~{{E}}, 8 GND, 9 S2, 10 S1, 11 S0, 12 I7, 13 I6, 14 I5, 15 I4, 16 VCC
text: MUX

## 74153
designator *  value 74153  Reference: U
pins: 1 ~{{ENa}}, 2 B, 3 I3a, 4 I2a, 5 I1a, 6 I0a, 7 Qa, 8 GND, 9 Qb, 10 I0b, 11 I1b, 12 I2b, 13 I3b, 14 A, 15 ~{{ENb}}, 16 VCC
text: MUX

## 74154
designator *  value 74154  Reference: U
pins: 1 ~{{S0}}, 2 ~{{S1}}, 3 ~{{S2}}, 4 ~{{S3}}, 5 ~{{S4}}, 6 ~{{S5}}, 7 ~{{S6}}, 8 ~{{S7}}, 9 ~{{S8}}, 10 ~{{S9}}, 11 ~{{S10}}, 12 GND, 13 ~{{S11}}, 14 ~{{S12}}, 15 ~{{S13}}, 16 ~{{S14}}, 17 ~{{S15}}, 18 ~{{E0}}, 19 ~{{E1}}, 20 A3, 21 A2, 22 A1, 23 A0, 24 VCC
text: DMUX; &; EN

## 74155
designator *  value 74155  Reference: U
pins: 1 Ea1, 2 ~{{ENa}}, 3 A1, 4 ~{{Q3a}}, 5 ~{{Q2a}}, 6 ~{{Q1a}}, 7 ~{{Q0a}}, 8 GND, 9 ~{{Q0b}}, 10 ~{{Q1b}}, 11 ~{{Q2b}}, 12 ~{{Q3b}}, 13 A0, 14 ~{{ENb}}, 15 ~{{Eb2}}, 16 VCC
text: &; ENa; ENb

## 74156
designator *  value 74156  Reference: U
pins: 1 Ea1, 2 ~{{ENa}}, 3 A1, 4 ~{{Q3a}}, 5 ~{{Q2a}}, 6 ~{{Q1a}}, 7 ~{{Q0a}}, 8 GND, 9 ~{{Q0b}}, 10 ~{{Q1b}}, 11 ~{{Q2b}}, 12 ~{{Q3b}}, 13 A0, 14 ~{{ENb}}, 15 ~{{Eb2}}, 16 VCC
text: &; ENa; ENb

## 74157
designator *  value 74157  Reference: U
pins: 1 A/B, 2 I0a, 3 I1a, 4 Qa, 5 I0b, 6 I1b, 7 Qb, 8 GND, 9 Qd, 10 I1d, 11 I0d, 12 Qc, 13 I1c, 14 I0c, 15 ~{{EN}}, 16 VCC
text: MUX

## 74158
designator *  value 74158  Reference: U
pins: 1 Sens, 2 I0a, 3 I1a, 4 ~{{Qa}}, 5 I0b, 6 I1b, 7 ~{{Qb}}, 8 GND, 9 ~{{Qd}}, 10 I1d, 11 I0d, 12 ~{{Qc}}, 13 I1c, 14 I0c, 15 ~{{EN}}, 16 VCC
text: MUX

## 74159
designator *  value 74159  Reference: U
pins: 1 ~{{S0}}, 2 ~{{S1}}, 3 ~{{S2}}, 4 ~{{S3}}, 5 ~{{S4}}, 6 ~{{S5}}, 7 ~{{S6}}, 8 ~{{S7}}, 9 ~{{S8}}, 10 ~{{S9}}, 11 ~{{S10}}, 12 GND, 13 ~{{S11}}, 14 ~{{S12}}, 15 ~{{S13}}, 16 ~{{S14}}, 17 ~{{S15}}, 18 ~{{E0}}, 19 ~{{E1}}, 20 A3, 21 A2, 22 A1, 23 A0, 24 VCC
text: DMUX; &; EN

## 74164
designator *  value 74164  Reference: U
pins: 1 A, 2 B, 3 Qa, 4 Qb, 5 Qc, 6 Qd, 7 VSS, 8 CK, 9 ~{{R}}, 10 Qe, 11 Qf, 12 Qg, 13 Qh, 14 VDD
text: &

## 74165
designator *  value 74165  Reference: U
pins: 1 SH, 2 CLK, 3 E, 4 F, 5 G, 6 H, 7 ~{{QH}}, 8 GND, 9 QH, 10 SER, 11 A, 12 B, 13 C, 14 D, 15 CLK_Inh, 16 VCC

## 74166
designator *  value 74166  Reference: U
pins: 1 SER, 2 A, 3 B, 4 C, 5 D, 6 CLK_Inh, 7 CLK, 8 GND, 9 ~{{R}}, 10 E, 11 F, 12 G, 13 QH, 14 H, 15 SH, 16 VCC

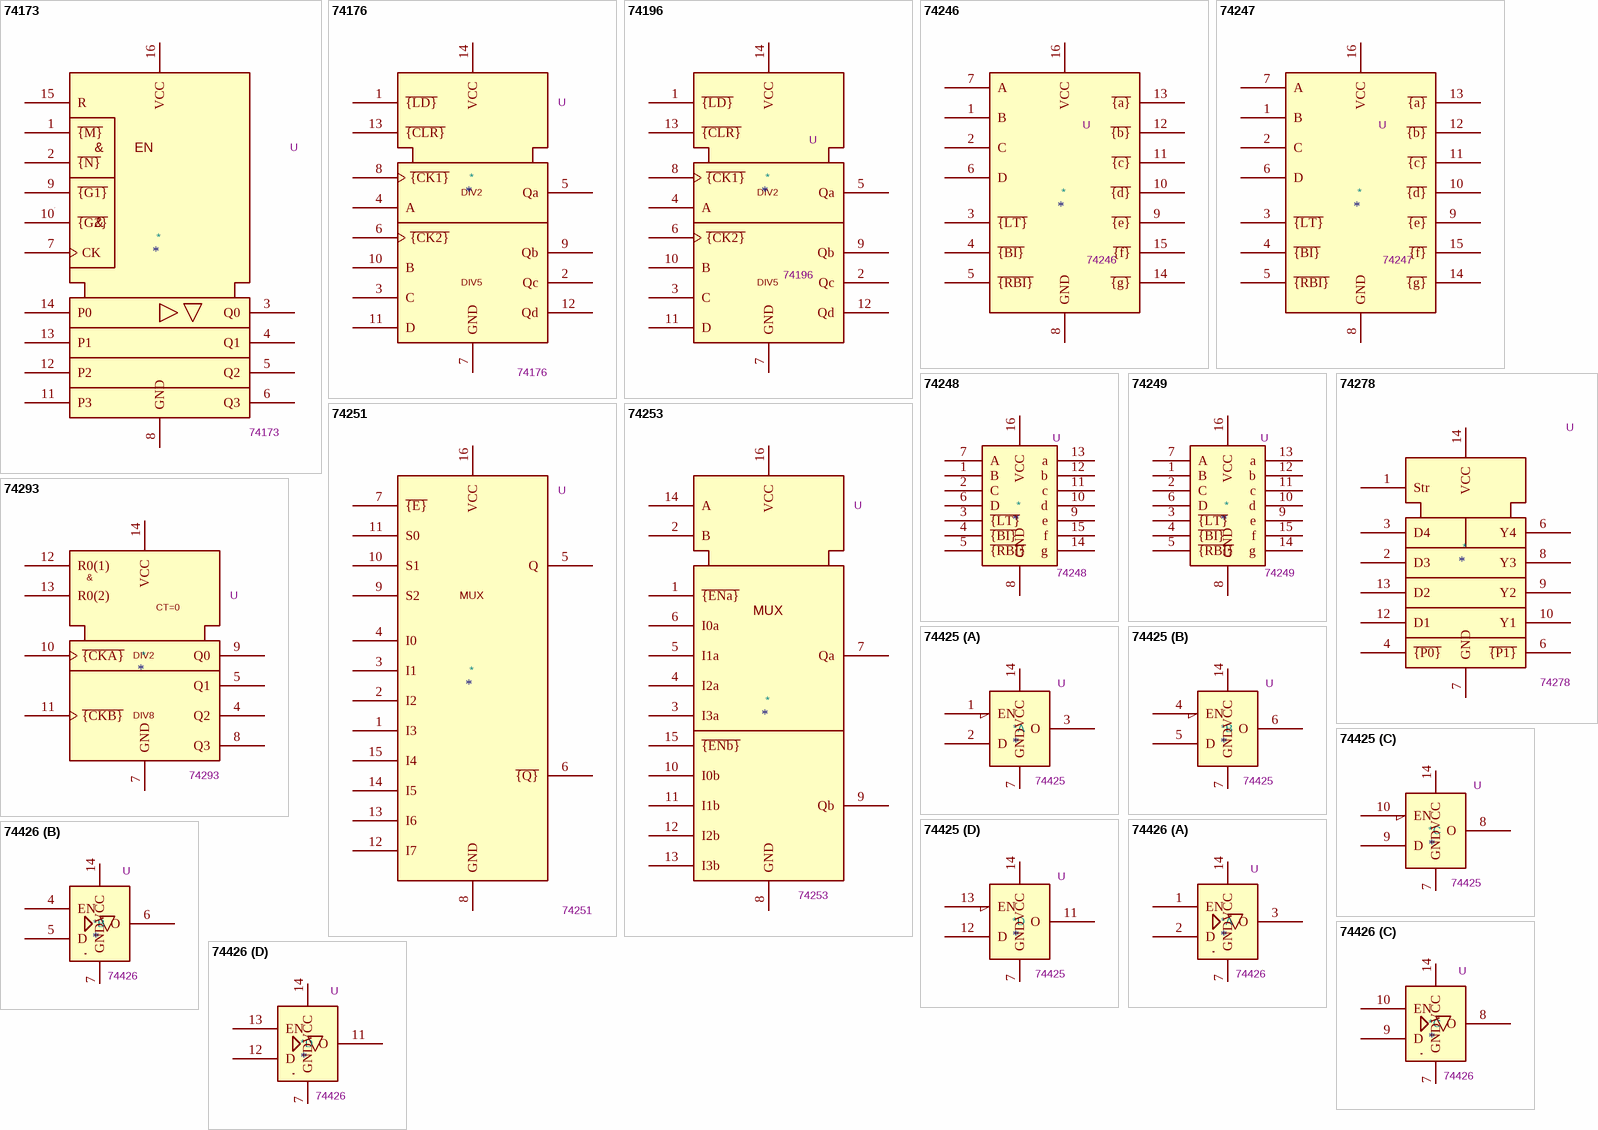
[diagram p13: symbols 74173 to 74426]

## 74173
designator *  value 74173  Reference: U
pins: 1 ~{{M}}, 2 ~{{N}}, 3 Q0, 4 Q1, 5 Q2, 6 Q3, 7 CK, 8 GND, 9 ~{{G1}}, 10 ~{{G2}}, 11 P3, 12 P2, 13 P1, 14 P0, 15 R, 16 VCC
text: &; EN

## 74176
designator *  value 74176  Reference: U
pins: 1 ~{{LD}}, 2 Qc, 3 C, 4 A, 5 Qa, 6 ~{{CK2}}, 7 GND, 8 ~{{CK1}}, 9 Qb, 10 B, 11 D, 12 Qd, 13 ~{{CLR}}, 14 VCC
text: DIV2; DIV5

## 74196
designator *  value 74196  Reference: U
pins: 1 ~{{LD}}, 2 Qc, 3 C, 4 A, 5 Qa, 6 ~{{CK2}}, 7 GND, 8 ~{{CK1}}, 9 Qb, 10 B, 11 D, 12 Qd, 13 ~{{CLR}}, 14 VCC
text: DIV2; DIV5

## 74246
designator *  value 74246  Reference: U
pins: 1 B, 2 C, 3 ~{{LT}}, 4 ~{{BI}}, 5 ~{{RBI}}, 6 D, 7 A, 8 GND, 9 ~{{e}}, 10 ~{{d}}, 11 ~{{c}}, 12 ~{{b}}, 13 ~{{a}}, 14 ~{{g}}, 15 ~{{f}}, 16 VCC

## 74247
designator *  value 74247  Reference: U
pins: 1 B, 2 C, 3 ~{{LT}}, 4 ~{{BI}}, 5 ~{{RBI}}, 6 D, 7 A, 8 GND, 9 ~{{e}}, 10 ~{{d}}, 11 ~{{c}}, 12 ~{{b}}, 13 ~{{a}}, 14 ~{{g}}, 15 ~{{f}}, 16 VCC

## 74248
designator *  value 74248  Reference: U
pins: 1 B, 2 C, 3 ~{{LT}}, 4 ~{{BI}}, 5 ~{{RBI}}, 6 D, 7 A, 8 GND, 9 e, 10 d, 11 c, 12 b, 13 a, 14 g, 15 f, 16 VCC

## 74249
designator *  value 74249  Reference: U
pins: 1 B, 2 C, 3 ~{{LT}}, 4 ~{{BI}}, 5 ~{{RBI}}, 6 D, 7 A, 8 GND, 9 e, 10 d, 11 c, 12 b, 13 a, 14 g, 15 f, 16 VCC

## 74251
designator *  value 74251  Reference: U
pins: 1 I3, 2 I2, 3 I1, 4 I0, 5 Q, 6 ~{{Q}}, 7 ~{{E}}, 8 GND, 9 S2, 10 S1, 11 S0, 12 I7, 13 I6, 14 I5, 15 I4, 16 VCC
text: MUX

## 74253
designator *  value 74253  Reference: U
pins: 1 ~{{ENa}}, 2 B, 3 I3a, 4 I2a, 5 I1a, 6 I0a, 7 Qa, 8 GND, 9 Qb, 10 I0b, 11 I1b, 12 I2b, 13 I3b, 14 A, 15 ~{{ENb}}, 16 VCC
text: MUX

## 74278
designator *  value 74278  Reference: U
pins: 1 Str, 2 D3, 3 D4, 4 ~{{P0}}, 6 Y4, 6 ~{{P1}}, 7 GND, 8 Y3, 9 Y2, 10 Y1, 12 D1, 13 D2, 14 VCC

## 74293
designator *  value 74293  Reference: U
pins: 4 Q2, 5 Q1, 7 GND, 8 Q3, 9 Q0, 10 ~{{CKA}}, 11 ~{{CKB}}, 12 R0(1), 13 R0(2), 14 VCC
text: &; CT=0; DIV2; DIV8

## 74425
designator *  value 74425  Reference: U
part A pins: 1 EN, 2 D, 3 O, 7 GND, 14 VCC
part B pins: 4 EN, 5 D, 6 O, 7 GND, 14 VCC
part C pins: 7 GND, 8 O, 9 D, 10 EN, 14 VCC
part D pins: 7 GND, 11 O, 12 D, 13 EN, 14 VCC

## 74426
designator *  value 74426  Reference: U
part A pins: 1 EN, 2 D, 3 O, 7 GND, 14 VCC
part B pins: 4 EN, 5 D, 6 O, 7 GND, 14 VCC
part C pins: 7 GND, 8 O, 9 D, 10 EN, 14 VCC
part D pins: 7 GND, 11 O, 12 D, 13 EN, 14 VCC